# Altium schematic symbol library Schem_Lib_DaanHeetkamp.SchLib: 303 symbols (part 1 of 3)
Pins are listed as number, name and electrical type; pins without a type are passive.

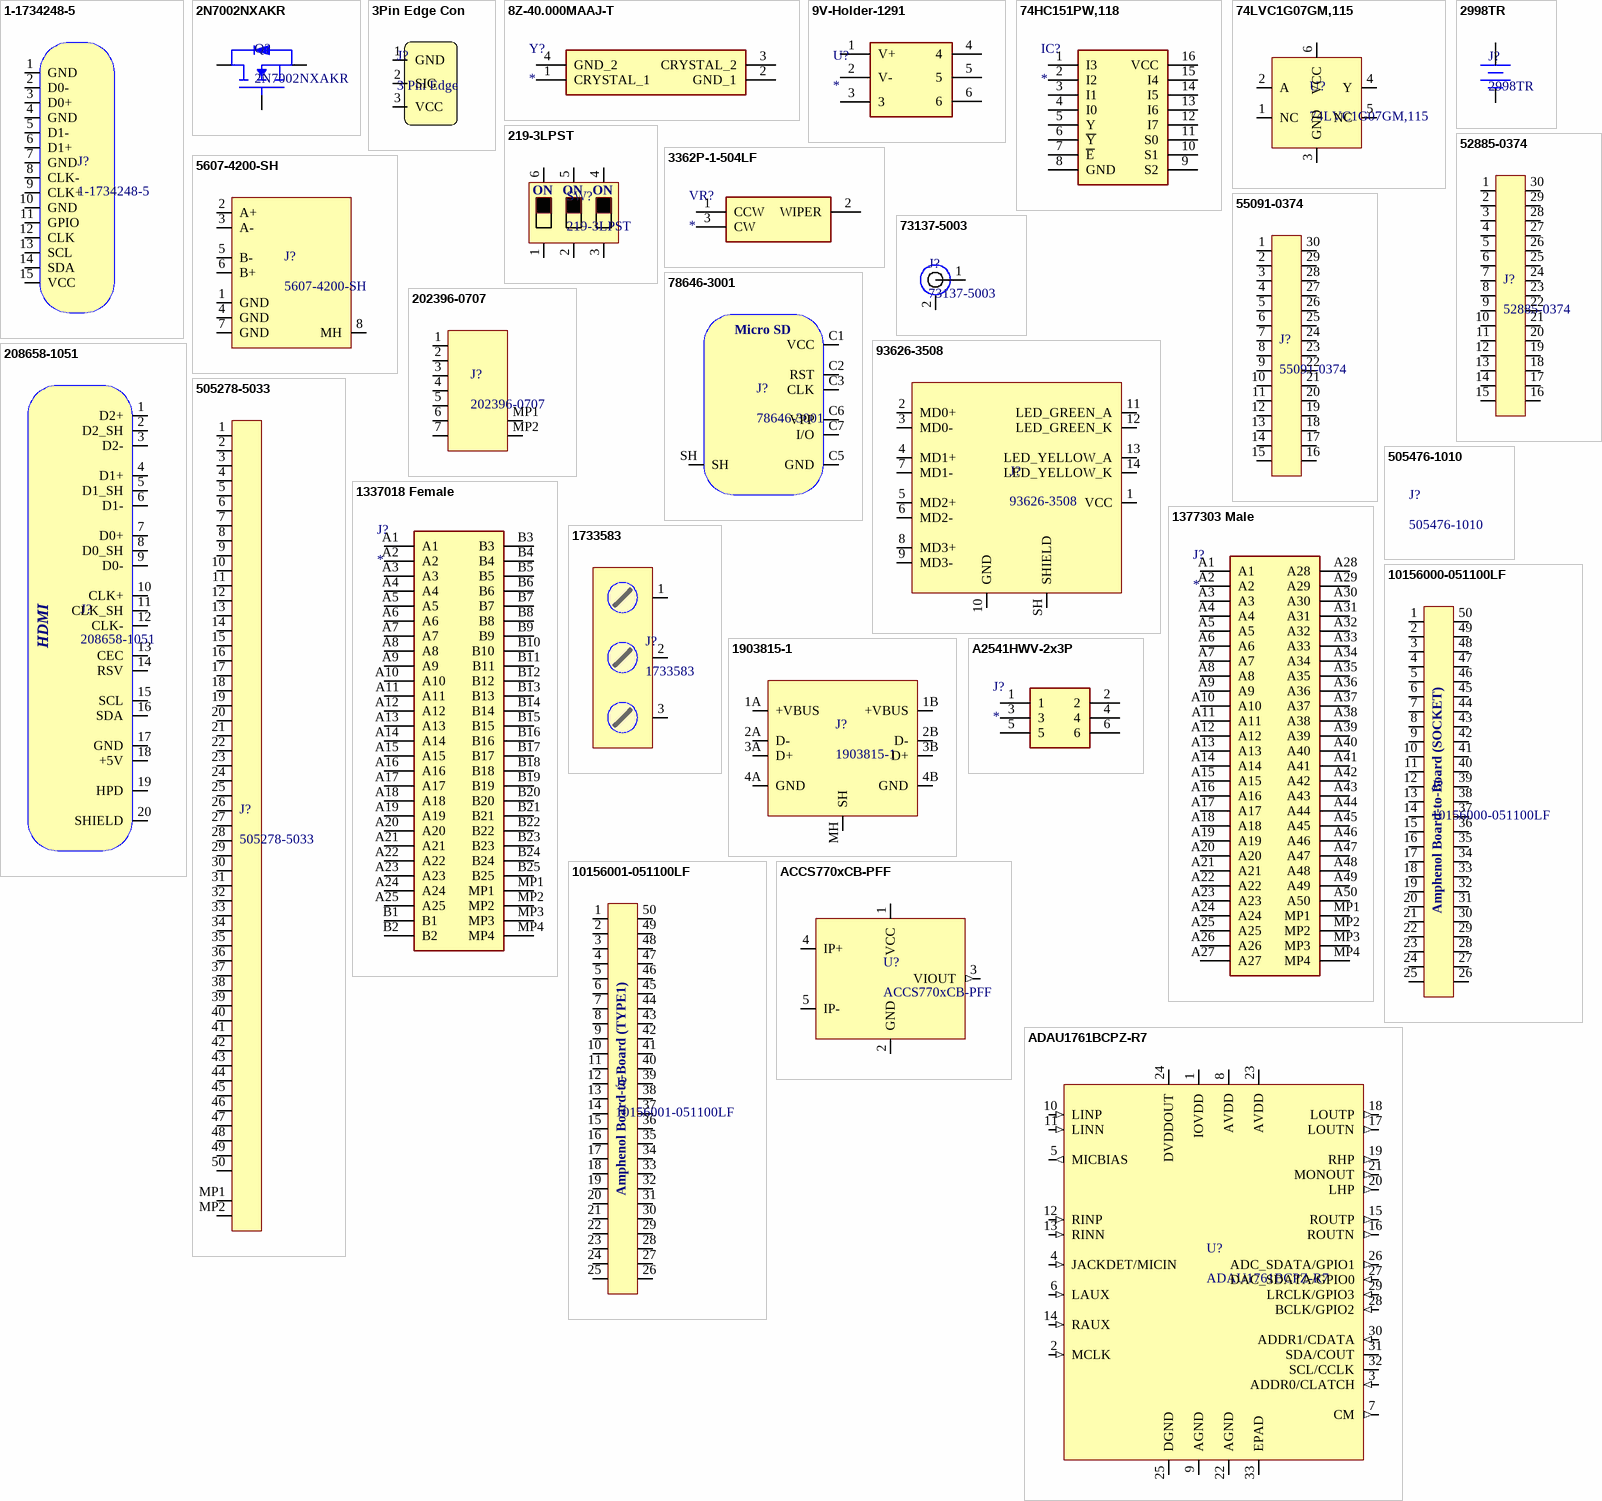
[diagram p0: symbols 1-1734248-5 to ADAU1761BCPZ-R7]

## 1-1734248-5
designator J?
FFC & FPC Connectors 15P 1.0 FPC, Zip V/T SMT; Manufacturer: TE Connectivity; Manufacturer Part Number: 1-1734248-5
footprint 1-1734248-5
pins: 1 GND, 2 D0-, 3 D0+, 4 GND, 5 D1-, 6 D1+, 7 GND, 8 CLK-, 9 CLK+, 10 GND, 11 GPIO, 12 CLK, 13 SCL, 14 SDA, 15 VCC

## 2N7002NXAKR
designator Q?
MOSFET N-Channel Vds=60V Id=300mA with ESD Protection; Manufacturer: Nexperia; Manufacturer Part Number: 2N7002NXAKR
footprint SSM3J338R,LF-SOT23-F
pins: D, G, S

## 3Pin Edge Con
designator J?, comment 3 Pin Edge
3 Pin Edge Connector
footprint 3PinEdge (3 Pin Edge Connector)
pins: 1 GND, 2 SIG, 3 VCC

## 8Z-40.000MAAJ-T
designator Y?
Crystal or Oscillator; Manufacturer_Name: TXC CORPORATION; Manufacturer_Part_Number: 8Z-40.000MAAJ-T; Datasheet Link: https://www.farnell.com/datasheets/1041872.pdf; Height: 0.55mm; Arrow Part Number: 8Z-40.000MAAJ-T; Arrow Price/Stock: https://www.arrow.com/en/products/8z-40.000maaj-t/txc-corporation
footprint 8Z40000MAAJT
pins: 1 CRYSTAL_1, 2 GND_1, 3 CRYSTAL_2, 4 GND_2

## 9V-Holder-1291
designator U?
Undefined or Miscellaneous; Manufacturer_Name: Keystone Electronics; Manufacturer_Part_Number: 1291; Datasheet Link: https://www.mouser.com/datasheet/2/215/291-741221.pdf; Height: 14.65mm; Mouser Part Number: 534-1291; Mouser Price/Stock: https://www.mouser.co.uk/ProductDetail/Keystone-Electronics/1291?qs=1rIBfDHV7idD%2F7OF5Ssx3Q%3D%3D
footprint 9V-Holder-129179
pins: 1 V+, 2 V-, 3, 4, 5, 6

## 74HC151PW,118
designator IC?
Integrated Circuit; Manufacturer_Name: Nexperia; Manufacturer_Part_Number: 74HC151PW,118; Datasheet Link: https://assets.nexperia.com/documents/data-sheet/74HC_HCT151.pdf; Height: 1.1mm; Mouser Part Number: 771-HC151PW118; Mouser Price/Stock: https://www.mouser.co.uk/ProductDetail/Nexperia/74HC151PW118?qs=P62ublwmbi%252BqenrdxHR1gw%3D%3D; Arrow Part Number: 74HC151PW,118; Arrow Price/Stock: https://www.arrow.com/en/products/74hc151pw118/nexperia?region=nac
footprint SOP65P640X110-16N
pins: 1 I3, 2 I2, 3 I1, 4 I0, 5 Y, 6 ~{Y}, 7 ~{E}, 8 GND, 9 S2, 10 S1, 11 S0, 12 I7, 13 I6, 14 I5, 15 I4, 16 VCC

## 74LVC1G07GM,115
designator U?
Open-Drain Buffer 3.3V/5V Non-Inverting XSON-6; Manufacturer: Nexperia; Manufacturer Part Number: 74LVC1G07GM,115
footprint XSON-6-SOT1202 (SON, 6-Leads, Body 0.98x1.00mm, Pitch 0.35mm, IPC Medium Density)
pins: 1 NC, 2 A, 3 GND, 4 Y, 5 NC, 6 VCC

## 219-3LPST
designator SW?
DIP Switches SPST 3x; Manufacturer: CTS; Manufacturer Part Number: 219-3LPST
footprint 219-3LPST
pins: 1, 2, 3, 4, 5, 6
text: ON

## 2998TR
designator J?
Coin Cell Battery Holder 6.8mm; Manufacturer: Keystone Electronics; Manufacturer Part Number: 2998TR
footprint 2998TR (6.8mm Coin Cell Holder SMD)
pins: A, K

## 3362P-1-504LF
designator VR?
Variable Resistor; Manufacturer_Name: Bourns; Manufacturer_Part_Number: 3362P-1-504LF; Datasheet Link: https://componentsearchengine.com/Datasheets/2/3362P-1-504LF.pdf; Height: 4.95mm; Mouser Part Number: 652-3362P-1-504LF; Mouser Price/Stock: https://www.mouser.co.uk/ProductDetail/Bourns/3362P-1-504LF?qs=PcXFNxoHkaI%252Brk7xgs916g%3D%3D; Arrow Part Number: 3362P-1-504LF; Arrow Price/Stock: https://www.arrow.com/en/products/3362p-1-504lf/bourns?region=nac
footprint 3362P1504LF
pins: 1 CCW, 2 WIPER, 3 CW

## 5607-4200-SH
designator J?
SATA Connector 7-Position 1.27mm Pitch Male Right Angle SMD; Manufacturer: 3M; Manufacturer Part Number: 5607-4200-SH
footprint 5607-4200-SH
pins: 1 GND, 2 A+, 3 A-, 4 GND, 5 B-, 6 B+, 7 GND, 8 MH

## 52885-0374
designator J?
SlimStack Board-to-Board Connector, 0.635mm Pitch, 0.635 Series, Receptacle, 6.00 to 10.00mm Mated Height, 6.40mm Mated Width, 30 Circuits; Manufacturer: Molex; Manufacturer Part Number: 52885-0374
footprint 52885-0374
pins: 1, 2, 3, 4, 5, 6, 7, 8, 9, 10, 11, 12, 13, 14, 15, 16, 17, 18, 19, 20, 21, 22, 23, 24, 25, 26, 27, 28, 29, 30

## 55091-0374
designator J?
SlimStack Board-to-Board Connector, 0.635mm Pitch, 0.635 Series, Plug, 6.00 or 12.00mm Mated Height, 6.40mm Mated Width, 30 Circuits; Manufacturer: Molex; Manufacturer Part Number: 55091-0374
footprint 55091-0374
pins: 1, 2, 3, 4, 5, 6, 7, 8, 9, 10, 11, 12, 13, 14, 15, 16, 17, 18, 19, 20, 21, 22, 23, 24, 25, 26, 27, 28, 29, 30

## 73137-5003
designator J?
BNC 50 Ohm, Right-Angle PCB Bulkhead Jack Receptacle, Panel Isolated, Black PBT Housing, Housing Height 13.20mm; Manufacturer: Molex; Manufacturer Part Number: 73137-5003
footprint 73137-5003
pins: 1, 2

## 78646-3001
designator J?
micro-SIM Card Socket without Detect Switch, 1.45mm Height, Push-Pull Eject, Surface Mount, 6 Circuits, Low-Halogen, Lead-Free; Manufacturer: Molex; Manufacturer Part Number: 78646-3001
footprint 78646-3001
pins: C1 VCC, C2 RST, C3 CLK, C5 GND, C6 VPP, C7 I/O, SH
text: Micro SD

## 93626-3508
designator J?
MXMag Gigabit Ethernet 8 Core Non-PoE Single-Port RJ45 Connector, 21.40mm Depth, 3.30mm Phy Pin Length, Right-Angle, Standard Profile, with Shield Tabs, with Green/Yellow-Green/Yellow LEDs, Standard Temperature, with 2kV Shield Connection; Manufacturer: Molex; Manufacturer Part Number: 93626-3508
footprint 93626-3508
pins: 1 VCC, 2 MD0+, 3 MD0-, 4 MD1+, 5 MD2+, 6 MD2-, 7 MD1-, 8 MD3+, 9 MD3-, 10 GND, 11 LED_GREEN_A, 12 LED_GREEN_K, 13 LED_YELLOW_A, 14 LED_YELLOW_K, SH SHIELD

## 202396-0707
designator J?
1.00mm Pitch, Pico-Clasp PCB Header, Single Row, Right-Angle, Surface Mount, 0.10µm Gold Plated, Inner Positive Lock, 7 Circuits, Natural; Manufacturer: Molex; Manufacturer Part Number: 202396-0707
footprint 202396-0707
pins: 1, 2, 3, 4, 5, 6, 7, MP1, MP2

## 208658-1051
designator J?
HDMI v2.1 Receptacle, Right-Angle, Gold Flash Plating, without Mylar, without Flange, Tape and Reel, 19 Circuits; Manufacturer: Molex; Manufacturer Part Number: 208658-1051
footprint 208658-1051
pins: 1 D2+, 2 D2_SH, 3 D2-, 4 D1+, 5 D1_SH, 6 D1-, 7 D0+, 8 D0_SH, 9 D0-, 10 CLK+, 11 CLK_SH, 12 CLK-, 13 CEC, 14 RSV, 15 SCL, 16 SDA, 17 GND, 18 +5V, 19 HPD, 20 SHIELD
text: HDMI

## 505278-5033
designator J?
FFC Connector 50 Position 0.5mm Pitch Bottom Contact ZIF; Manufacturer: Molex; Manufacturer Part Number: 505278-5033
footprint 505278-5033
pins: 1, 2, 3, 4, 5, 6, 7, 8, 9, 10, 11, 12, 13, 14, 15, 16, 17, 18, 19, 20, 21, 22, 23, 24, 25, 26, 27, 28, 29, 30, 31, 32, 33, 34, 35, 36, 37, 38, 39, 40, 41, 42, 43, 44, 45, 46, 47, 48, 49, 50, MP1, MP2

## 505476-1010
designator J?
SlimStack Board-to-Board Plug, 0.40mm Pitch, Battery Series, 0.60mm Mated Height, 2.00mm Mated Width, 10 Circuits, 10.0A; Manufacturer: Molex; Manufacturer Part Number: 505476-1010
footprint 505476-1010

## 1337018 Female
designator J?
FR 1,27/ 50-FH - SMD female connectors. / SMD; Manufacturer_Name: Phoenix Contact; Manufacturer_Part_Number: 1337018; Datasheet Link: http://www.phoenixcontact.com/gb/produkte/1337018; Height: 3.78mm
footprint 1337018
pins: A1, A2, A3, A4, A5, A6, A7, A8, A9, A10, A11, A12, A13, A14, A15, A16, A17, A18, A19, A20, A21, A22, A23, A24, A25, B1, B2, B3, B4, B5, B6, B7, B8, B9, B10, B11, B12, B13, B14, B15, B16, B17, B18, B19, B20, B21, B22, B23, B24, B25, MP1, MP2, MP3, MP4

## 1377303 Male
designator J?
FR 1,27/ 50-MH - SMD male connectors; Manufacturer_Name: Phoenix Contact; Manufacturer_Part_Number: 1377303; Datasheet Link: http://www.phoenixcontact.com/gb/produkte/1377303; Height: 4.25mm
footprint 1377303
pins: A1, A2, A3, A4, A5, A6, A7, A8, A9, A10, A11, A12, A13, A14, A15, A16, A17, A18, A19, A20, A21, A22, A23, A24, A25, A26, A27, A28, A29, A30, A31, A32, A33, A34, A35, A36, A37, A38, A39, A40, A41, A42, A43, A44, A45, A46, A47, A48, A49, A50, MP1, MP2, MP3, MP4

## 1733583
designator J?
Screw Terminal 3 Position 5.08mm Pitch Phoenix; Manufacturer: Phoenix Contact; Manufacturer Part Number: 1733583
footprint 1733583
pins: 1, 2, 3

## 1903815-1
designator J?
USB Connectors, A, 2.0, Standard Profile, Female Receptacle, 2 Port, Top, Right Angle, IP20, Offset, Industrial USB IP20; Manufacturer: TE Connectivity; Manufacturer Part Number: 1903815-1
footprint 1903815-1
pins: 1A +VBUS, 1B +VBUS, 2A D-, 2B D-, 3A D+, 3B D+, 4A GND, 4B GND, MH SH

## 10156000-051100LF
designator J?
Board-to-Board Connector 0.5mm Pitch 50 Position 2 Row; Manufacturer: Amphenol FCI; Manufacturer Part Number: 10156000-051100LF
footprint 10156000-051100LF
pins: 1, 2, 3, 4, 5, 6, 7, 8, 9, 10, 11, 12, 13, 14, 15, 16, 17, 18, 19, 20, 21, 22, 23, 24, 25, 26, 27, 28, 29, 30, 31, 32, 33, 34, 35, 36, 37, 38, 39, 40, 41, 42, 43, 44, 45, 46, 47, 48, 49, 50
text: Amphenol Board-to-Board (SOCKET)

## 10156001-051100LF
designator J?
Board-to-Board Connector 0.5mm Pitch 50 Position 2 Row; Manufacturer: Amphenol FCI; Manufacturer Part Number: 10156001-051100LF
footprint 10156001-051100LF
pins: 1, 2, 3, 4, 5, 6, 7, 8, 9, 10, 11, 12, 13, 14, 15, 16, 17, 18, 19, 20, 21, 22, 23, 24, 25, 26, 27, 28, 29, 30, 31, 32, 33, 34, 35, 36, 37, 38, 39, 40, 41, 42, 43, 44, 45, 46, 47, 48, 49, 50
text: Amphenol Board-to-Board (TYPE1)

## A2541HWV-2x3P
designator J?
Connector; Manufacturer_Name: Changjiang Connectors; Manufacturer_Part_Number: A2541HWV-2x3P; Datasheet Link: https://www.cjt.com/UP/A2541HWV-2xXP_dwg.pdf; Height: 8.75mm
footprint RHDR6W64P254_2X3_812X500X875P
pins: 1, 2, 3, 4, 5, 6

## ACCS770xCB-PFF
designator U?
Thermally Enhanced, Fully Integrated, Hall-Effect-Based / High-Precision Linear Current Sensor IC with 100 µΩ Current Conductor PFF Leadform; Manufacturer: Allegro MicroSystems; Manufacturer Part Number: ACS770*CB-*-PFF
footprint ACS770-PFF
pins: 1 VCC (power), 2 GND (power), 3 VIOUT (out), 4 IP+ (power), 5 IP- (power)

## ADAU1761BCPZ-R7
designator U?
Manufacturer: Analog Devices; Manufacturer Part Number: ADAU1761BCPZ-R7
footprint LFCSP-VQ
pins: 1 IOVDD (power), 2 MCLK (in), 3 ADDR0/CLATCH (in), 4 JACKDET/MICIN (in), 5 MICBIAS (out), 6 LAUX (in), 7 CM (out), 8 AVDD (power), 9 AGND (power), 10 LINP (in), 11 LINN (in), 12 RINP (in), 13 RINN (in), 14 RAUX (in), 15 ROUTP (out), 16 ROUTN (out), 17 LOUTN (out), 18 LOUTP (out), 19 RHP (out), 20 LHP (out), 21 MONOUT (out), 22 AGND (power), 23 AVDD (power), 24 DVDDOUT (power), 25 DGND (power), 26 ADC_SDATA/GPIO1 (out), 27 DAC_SDATA/GPIO0 (in), 28 BCLK/GPIO2 (in), 29 LRCLK/GPIO3 (in), 30 ADDR1/CDATA (in), 31 SDA/COUT (oc), 32 SCL/CCLK (oc), 33 EPAD (power)

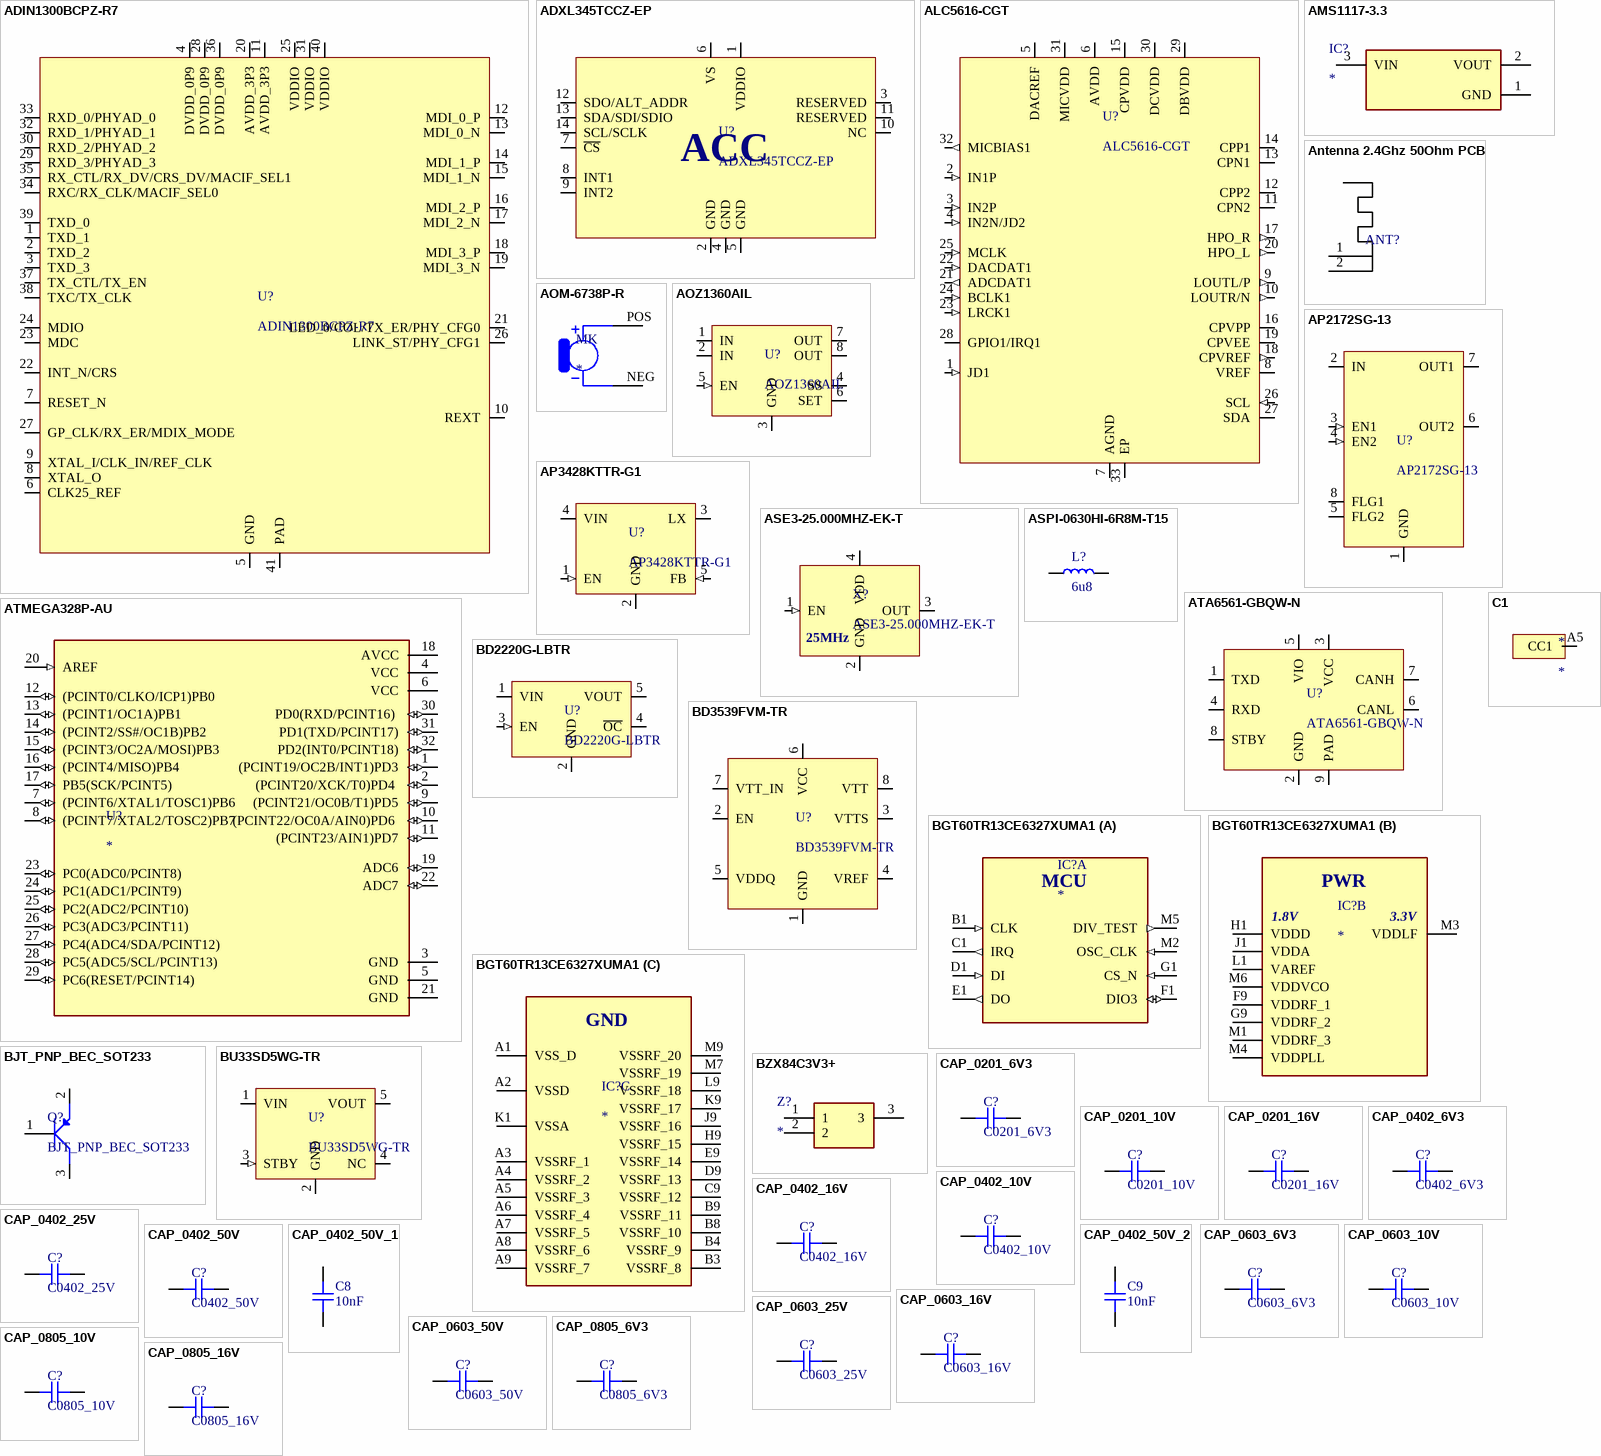
[diagram p1: symbols ADIN1300BCPZ-R7 to CAP_0805_16V]

## ADIN1300BCPZ-R7
designator U?
Gigabit Ethernet PHY MII/RGMII/RMII; Manufacturer: Analog Devices; Manufacturer Part Number: ADIN1300BCPZ-R7
footprint LFCSP-CP-40-26 (QFN, 40-Leads, Body 6,00x6,00mm, Pitch 0,50mm, Thermal Pad 2,77x2,77mm, IPC Medium Density)
pins: 1 TXD_1, 2 TXD_2, 3 TXD_3, 4 DVDD_0P9, 5 GND, 6 CLK25_REF, 7 RESET_N, 8 XTAL_O, 9 XTAL_I/CLK_IN/REF_CLK, 10 REXT, 11 AVDD_3P3, 12 MDI_0_P, 13 MDI_0_N, 14 MDI_1_P, 15 MDI_1_N, 16 MDI_2_P, 17 MDI_2_N, 18 MDI_3_P, 19 MDI_3_N, 20 AVDD_3P3, 21 LED_0/COL/TX_ER/PHY_CFG0, 22 INT_N/CRS, 23 MDC, 24 MDIO, 25 VDDIO, 26 LINK_ST/PHY_CFG1, 27 GP_CLK/RX_ER/MDIX_MODE, 28 DVDD_0P9, 29 RXD_3/PHYAD_3, 30 RXD_2/PHYAD_2, 31 VDDIO, 32 RXD_1/PHYAD_1, 33 RXD_0/PHYAD_0, 34 RXC/RX_CLK/MACIF_SEL0, 35 RX_CTL/RX_DV/CRS_DV/MACIF_SEL1, 36 DVDD_0P9, 37 TX_CTL/TX_EN, 38 TXC/TX_CLK, 39 TXD_0, 40 VDDIO, 41 PAD

## ADXL345TCCZ-EP
designator U?
3-Axis, ±2 g/±4 g/±8 g/±16 g Digital Accelerometer Extended Performance SPI/I2C; Manufacturer: Analog Devices; Manufacturer Part Number: ADXL345TCCZ-EP
footprint LGA_CC-14-1_ADI
pins: 1 VDDIO, 2 GND, 3 RESERVED, 4 GND, 5 GND, 6 VS, 7 ~{CS}, 8 INT1, 9 INT2, 10 NC, 11 RESERVED, 12 SDO/ALT_ADDR, 13 SDA/SDI/SDIO, 14 SCL/SCLK
text: ACC

## ALC5616-CGT
designator U?
Ultra-Low Power Audio CODEC; Manufacturer: Realtek; Manufacturer Part Number: ALC5616-CGT
footprint QFN-32-4x4 (QFN, 32-Leads, Body 4.00x4.00mm, Pitch 0.40mm, Thermal Pad 2.70x2.70mm, IPC Medium Density)
pins: 1 JD1 (in), 2 IN1P (in), 3 IN2P (in), 4 IN2N/JD2 (in), 5 DACREF (power), 6 AVDD (power), 7 AGND (power), 8 VREF (power), 9 LOUTL/P (out), 10 LOUTR/N (out), 11 CPN2 (power), 12 CPP2 (power), 13 CPN1 (power), 14 CPP1 (power), 15 CPVDD (power), 16 CPVPP, 17 HPO_R (out), 18 CPVREF (out), 19 CPVEE, 20 HPO_L (out), 21 ADCDAT1 (out), 22 DACDAT1 (in), 23 LRCK1 (in), 24 BCLK1 (in), 25 MCLK (in), 26 SCL (in), 27 SDA (io), 28 GPIO1/IRQ1 (io), 29 DBVDD (power), 30 DCVDD (power), 31 MICVDD (power), 32 MICBIAS1 (out), 33 EP (power)

## AMS1117-3.3
designator IC?
Integrated Circuit; Manufacturer_Name: Advanced Monolithic Systems; Manufacturer_Part_Number: AMS1117-3.3; Datasheet Link: http://www.advanced-monolithic.com/pdf/ds1117.pdf; Height: 1.8mm
footprint SOT229P700X180-4N
pins: 1 GND, 2 VOUT, 3 VIN, 4 VOUT_2

## Antenna 2.4Ghz 50Ohm PCB
designator ANT?
ESP32 C3
footprint PCB_Antenna_2.4GHz_50Ohm
pins: 1 RF, 2 GND

## AOM-6738P-R
designator MK
30Hz ~ 15kHz Analog Microphone Electret Condenser 1.5V ~ 10V Omnidirectional _-38dB Â±3dB_ PC Pins; MP: AOM-6738P-R; MF: PUI; SnapEDA_Link: https://www.snapeda.com/parts/AOM-6738P-R/PUI%20Audio%2C%20Inc./view-part/246102/?ref=snap; Package: PUI; Value: *; Availability: Unavailable; Price: None
footprint MIC_AOM-6738P-R
pins: NEG, POS

## AOZ1360AIL
designator U?
28V Programmable Current-Limited Load Switch SO-8; Manufacturer: ALPHA & OMEGA SEMICON; Manufacturer Part Number: AOZ1360AIL
footprint SO-8L (SOIC, 8-Leads, Body 4.90x3.90mm, Pitch 1.27mm, IPC Medium Density)
pins: 1 IN (power), 2 IN (power), 3 GND (power), 4 SS, 5 EN (in), 6 SET (power), 7 OUT (power), 8 OUT (power)

## AP2172SG-13
designator U?
1A DUAL CHANNEL CURRENT-LIMITED POWER SWITCH Enable Active High; Manufacturer: Diodes Incorporated; Manufacturer Part Number: AP2172SG-13
footprint SO-8L (SOIC, 8-Leads, Body 4.90x3.90mm, Pitch 1.27mm, IPC Medium Density)
pins: 1 GND (power), 2 IN (power), 3 EN1 (in), 4 EN2 (in), 5 FLG2 (oc), 6 OUT2 (power), 7 OUT1 (power), 8 FLG1 (oc)

## AP3428KTTR-G1
designator U?
1.5MHZ, 1A STEP-DOWN DC-DC BUCK CONVERTER; Manufacturer: Diodes Incorporated; Manufacturer Part Number: AP3428KTTR-G1
footprint TSOT25 (SOT23, 5-Leads, Body 2.90x2.80mm, Pitch 0.95mm, IPC Medium Density)
pins: 1 EN (in), 2 GND (power), 3 LX (power), 4 VIN (power), 5 FB (in)

## ASE3-25.000MHZ-EK-T
designator X?
Standard Clock Oscillators 25 MHZ 1.8V 15PF 4-PIN 3.2mm x 2.5mm; Manufacturer: ABRACON; Manufacturer Part Number: ASE3-25.000MHZ-EK-T
footprint XTAL_3225
pins: 1 EN (in), 2 GND (power), 3 OUT, 4 VDD (power)
text: 25MHz

## ASPI-0630HI-6R8M-T15
designator L?, comment 6u8
Inductor SMD 6.8uH 20% 8A Shielded; Manufacturer: ABRACON; Manufacturer Part Number: ASPI-0630HI-6R8M-T15
footprint ASPI-0630HI-6R8M-T15
pins: 1, 2

## ATA6561-GBQW-N
designator U?
CAN Interface IC High-Speed FD VDFN-8; Manufacturer: Microchip; Manufacturer Part Number: ATA6561-GBQW-N
footprint VDFN-8
pins: 1 TXD, 2 GND, 3 VCC, 4 RXD, 5 VIO, 6 CANL, 7 CANH, 8 STBY, 9 PAD

## ATMEGA328P-AU
designator U?
ATmega Series 20 MHz 32 KB Flash 2 KB SRAM 8-Bit Microcontroller - TQFP-32; MP: ATMEGA328P-AU; Value: *; Availability: Unavailable; Price: None; Package: None
footprint ATMEGA328P-AU
pins: 1 (PCINT19/OC2B/INT1)PD3 (io), 2 (PCINT20/XCK/T0)PD4  (io), 3 GND (power), 4 VCC (power), 5 GND (power), 6 VCC (power), 7 (PCINT6/XTAL1/TOSC1)PB6  (io), 8 (PCINT7/XTAL2/TOSC2)PB7 (io), 9 (PCINT21/OC0B/T1)PD5 (io), 10 (PCINT22/OC0A/AIN0)PD6  (io), 11 (PCINT23/AIN1)PD7 (io), 12 (PCINT0/CLKO/ICP1)PB0 (io), 13 (PCINT1/OC1A)PB1 (io), 14 (PCINT2/SS#/OC1B)PB2 (io), 15 (PCINT3/OC2A/MOSI)PB3 (io), 16 (PCINT4/MISO)PB4 (io), 17 PB5(SCK/PCINT5) (io), 18 AVCC (power), 19 ADC6 (io), 20 AREF (in), 21 GND (power), 22 ADC7 (io), 23 PC0(ADC0/PCINT8) (io), 24 PC1(ADC1/PCINT9) (io), 25 PC2(ADC2/PCINT10) (io), 26 PC3(ADC3/PCINT11) (io), 27 PC4(ADC4/SDA/PCINT12) (io), 28 PC5(ADC5/SCL/PCINT13) (io), 29 PC6(RESET/PCINT14) (io), 30 PD0(RXD/PCINT16)  (io), 31 PD1(TXD/PCINT17) (io), 32 PD2(INT0/PCINT18) (io)

## BD2220G-LBTR
designator U?
High-Side USB Current Limited Power Distribution Switch 1A SMD; Manufacturer: ROHM Semiconductor; Manufacturer Part Number: BD2220G-LBTR
footprint SSOP5
pins: 1 VIN (power), 2 GND (power), 3 EN (in), 4 ~{OC}, 5 VOUT

## BD3539FVM-TR
designator U?
1.0V to 5.5V, 1A 1Ch Termination Regulator for DDR-SDRAMs; Manufacturer: ROHM Semiconductor; Manufacturer Part Number: BD3539FVM-TR
footprint MSOP8 (TSOP, 8-Leads, Body 2.90x2.80mm, Pitch 0.65mm, IPC Medium Density)
pins: 1 GND, 2 EN, 3 VTTS, 4 VREF, 5 VDDQ, 6 VCC, 7 VTT_IN, 8 VTT

## BGT60TR13CE6327XUMA1
designator IC?
Integrated Circuit; Manufacturer_Name: Infineon; Manufacturer_Part_Number: BGT60TR13CE6327XUMA1; Datasheet Link: https://www.infineon.com/dgdl/Infineon-BGT60TR13C-DataSheet-v02_49-EN.pdf?fileId=8ac78c8c7d718a49017d94bac88e5d43; Height: 0.9mm; Mouser Part Number: 726-BGT60TR13CE6327X; Mouser Price/Stock: https://www.mouser.co.uk/ProductDetail/Infineon-Technologies/BGT60TR13CE6327XUMA1?qs=sPbYRqrBIVnK9rZEOIh6SA%3D%3D; Arrow Part Number: BGT60TR13CE6327XUMA1; Arrow Price/Stock: https://www.arrow.com/en/products/bgt60tr13ce6327xuma1/infineon-technologies-ag?region=nac; LCSC PART #: C3606641
footprint BGT60TR13CE6327XUMA1
part A pins: B1 CLK (in), C1 IRQ (out), D1 DI (in), E1 DO (out), F1 DIO3 (io), G1 CS_N (in), M2 OSC_CLK (in), M5 DIV_TEST (out)
part B pins: F9 VDDRF_1 (power), G9 VDDRF_2 (power), H1 VDDD (power), J1 VDDA (power), L1 VAREF (power) "1.8V Vout", M1 VDDRF_3 (power), M3 VDDLF (power), M4 VDDPLL (power), M6 VDDVCO (power)
part C pins: A1 VSS_D (power), A2 VSSD (power), A3 VSSRF_1 (power), A4 VSSRF_2 (power), A5 VSSRF_3 (power), A6 VSSRF_4 (power), A7 VSSRF_5 (power), A8 VSSRF_6 (power), A9 VSSRF_7 (power), B3 VSSRF_8 (power), B4 VSSRF_9 (power), B8 VSSRF_10 (power), B9 VSSRF_11 (power), C9 VSSRF_12 (power), D9 VSSRF_13 (power), E9 VSSRF_14 (power), H9 VSSRF_15 (power), J9 VSSRF_16 (power), K1 VSSA (power), K9 VSSRF_17 (power), L9 VSSRF_18 (power), M7 VSSRF_19 (power), M9 VSSRF_20 (power)
part A text: MCU
part B text: PWR; 1.8V; 3.3V
part C text: GND

## BJT_PNP_BEC_SOT233
designator Q?
Transistor BJT PNP SOT-23-3 Package Base=1 Emitter=2 Collector=3
footprint SOT-23-3
pins: 1 B, 2 E, 3 C

## BU33SD5WG-TR
designator U?
LDO Voltage Regulator 3.3V 500mA; Manufacturer: ROHM Semiconductor; Manufacturer Part Number: BU33SD5WG-TR
footprint SOT-23-5 (SOT23, 5-Leads, Body 2,90x2,80mm, Pitch 0,95mm, IPC Medium Density)
pins: 1 VIN (power), 2 GND (power), 3 STBY (in), 4 NC, 5 VOUT (power)

## BZX84C3V3+
designator Z?
Zener Diode; Manufacturer_Name: Multicomp Pro; Manufacturer_Part_Number: BZX84C3V3+; Datasheet Link: http://www.farnell.com/datasheets/2864041.pdf?_ga=2.65399785.614620193.1582490097-507155298.1582490097; Height: 1.22mm; LCSC PART #: C2926225
footprint SOT96P237X122-3N
pins: 1, 2, 3

## C1
designator *
pins: A5 CC1

## CAP_0201_6V3
designator C?, comment C0201_6V3
Capacitor SMD 0201 6V3
footprint CAP_0201
pins: 1, 2

## CAP_0201_10V
designator C?, comment C0201_10V
Capacitor SMD 0201 10V
footprint CAP_0201
pins: 1, 2

## CAP_0201_16V
designator C?, comment C0201_16V
Capacitor SMD 0201 16V
footprint CAP_0201
pins: 1, 2

## CAP_0402_6V3
designator C?, comment C0402_6V3
Capacitor SMD 0402 6V3
footprint CAP_0402
pins: 1, 2

## CAP_0402_10V
designator C?, comment C0402_10V
Capacitor SMD 0402 10V
footprint CAP_0402
pins: 1, 2

## CAP_0402_16V
designator C?, comment C0402_16V
Capacitor SMD 0402 16V
footprint CAP_0402
pins: 1, 2

## CAP_0402_25V
designator C?, comment C0402_25V
Capacitor SMD 0402 25V
footprint CAP_0402
pins: 1, 2

## CAP_0402_50V
designator C?, comment C0402_50V
Capacitor SMD 0402 50V
footprint CAP_0402
pins: 1, 2

## CAP_0402_50V_1
designator C8, comment 10nF
Capacitor SMD 0402 50V
footprint CAP_0402
pins: 1, 2

## CAP_0402_50V_2
designator C9, comment 10nF
Capacitor SMD 0402 50V
footprint CAP_0402
pins: 1, 2

## CAP_0603_6V3
designator C?, comment C0603_6V3
Capacitor SMD 0603 6V3
footprint CAP_0603
pins: 1, 2

## CAP_0603_10V
designator C?, comment C0603_10V
Capacitor SMD 0603 10V
footprint CAP_0603
pins: 1, 2

## CAP_0603_16V
designator C?, comment C0603_16V
Capacitor SMD 0603 16V
footprint CAP_0603
pins: 1, 2

## CAP_0603_25V
designator C?, comment C0603_25V
Capacitor SMD 0603 25V
footprint CAP_0603
pins: 1, 2

## CAP_0603_50V
designator C?, comment C0603_50V
Capacitor SMD 0603 50V
footprint CAP_0603
pins: 1, 2

## CAP_0805_6V3
designator C?, comment C0805_6V3
Capacitor SMD 0805 6V3
footprint CAP_0805
pins: 1, 2

## CAP_0805_10V
designator C?, comment C0805_10V
Capacitor SMD 0805 10V
footprint CAP_0805
pins: 1, 2

## CAP_0805_16V
designator C?, comment C0805_16V
Capacitor SMD 0805 16V
footprint CAP_0805
pins: 1, 2

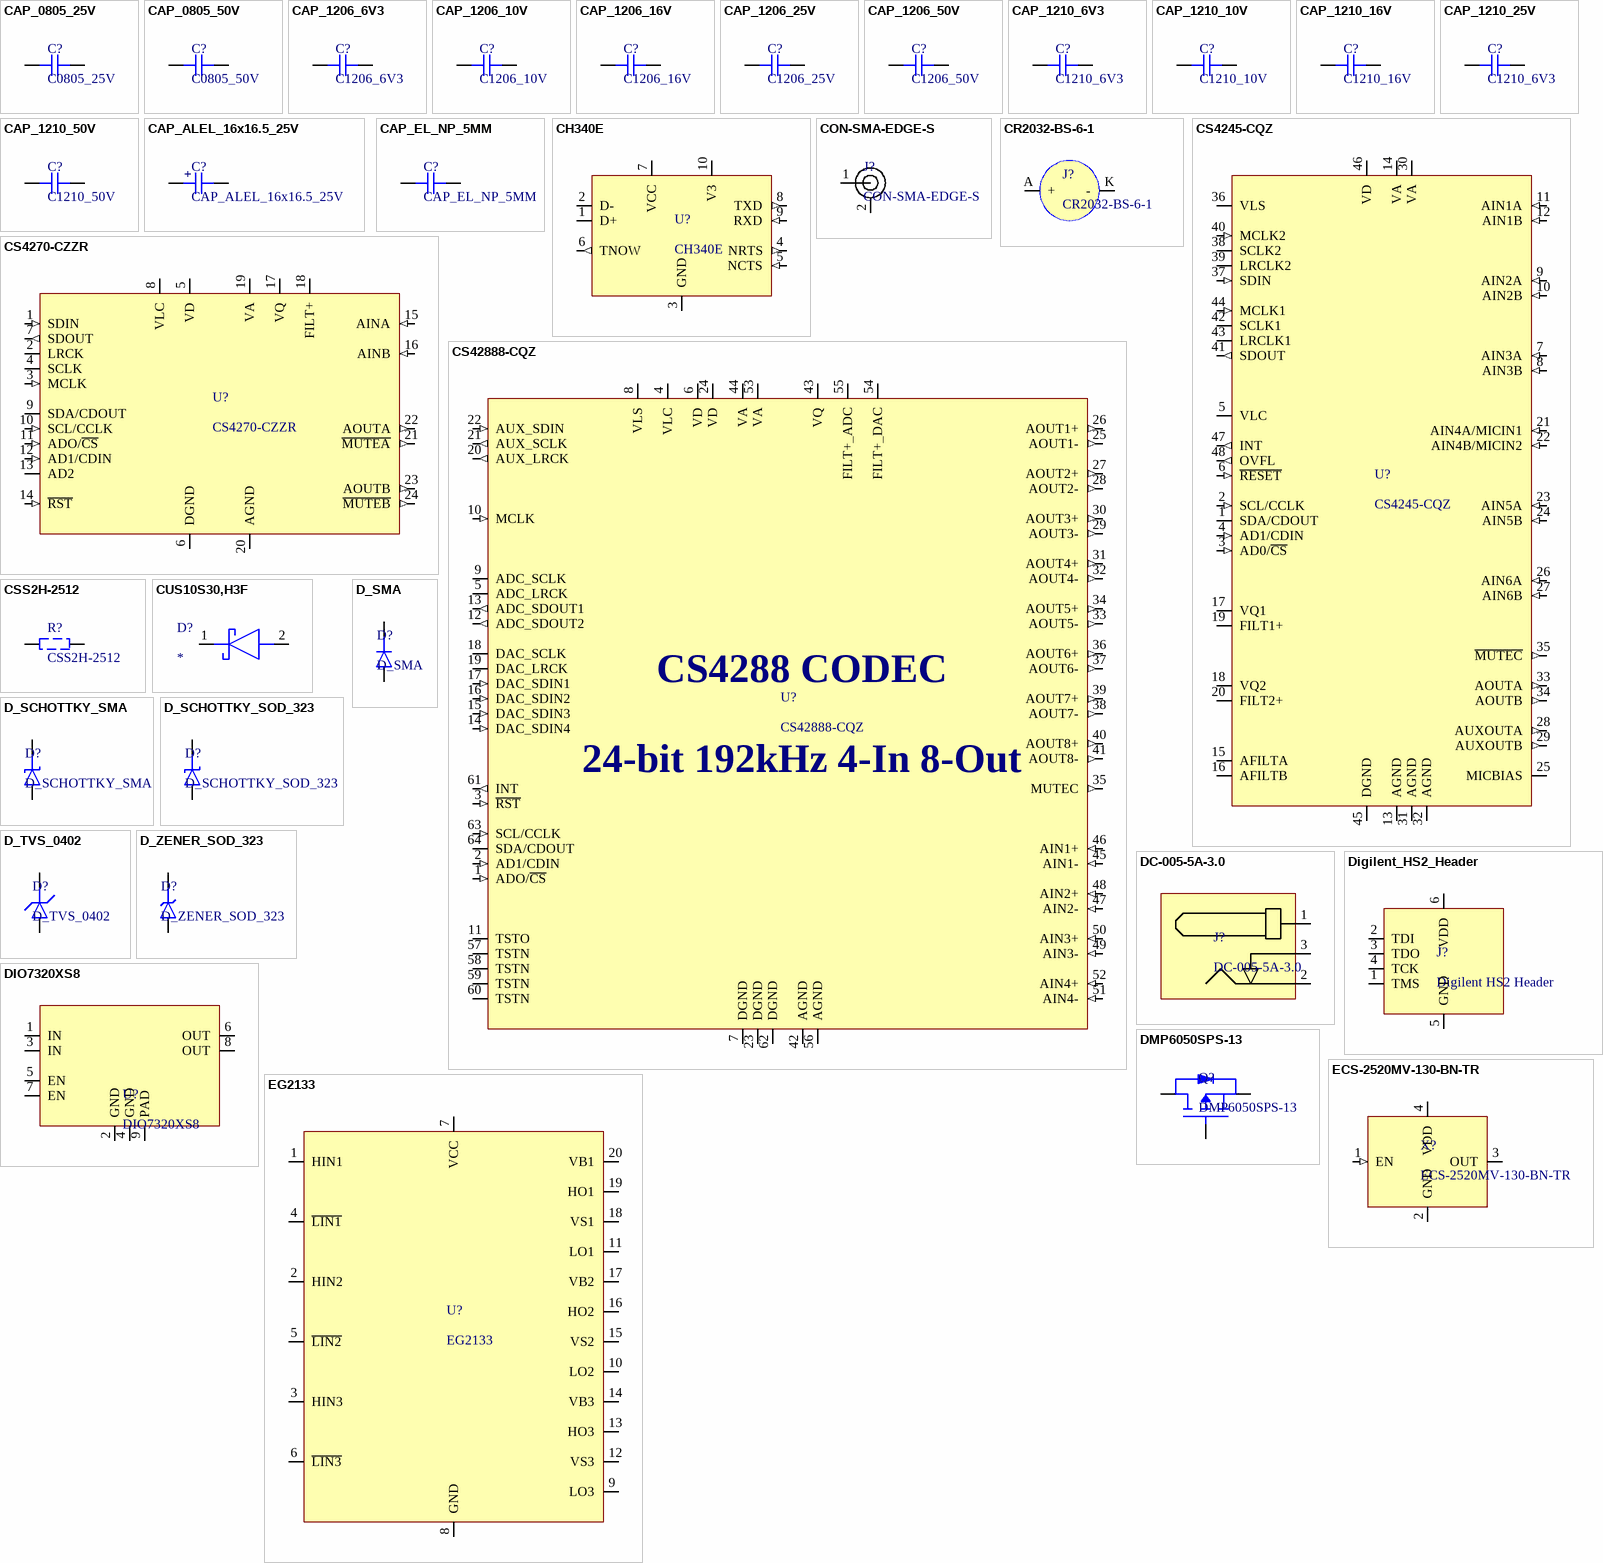
[diagram p2: symbols CAP_0805_25V to EG2133]

## CAP_0805_25V
designator C?, comment C0805_25V
Capacitor SMD 0805 25V
footprint CAP_0805
pins: 1, 2

## CAP_0805_50V
designator C?, comment C0805_50V
Capacitor SMD 0805 50V
footprint CAP_0805
pins: 1, 2

## CAP_1206_6V3
designator C?, comment C1206_6V3
Capacitor SMD 1206 6V3
footprint CAP_1206
pins: 1, 2

## CAP_1206_10V
designator C?, comment C1206_10V
Capacitor SMD 1206 10V
footprint CAP_1206
pins: 1, 2

## CAP_1206_16V
designator C?, comment C1206_16V
Capacitor SMD 1206 16V
footprint CAP_1206
pins: 1, 2

## CAP_1206_25V
designator C?, comment C1206_25V
Capacitor SMD 1206 25V
footprint CAP_1206
pins: 1, 2

## CAP_1206_50V
designator C?, comment C1206_50V
Capacitor SMD 1206 50V
footprint CAP_1206
pins: 1, 2

## CAP_1210_6V3
designator C?, comment C1210_6V3
Capacitor SMD 1210 6V3
footprint CAP_1210
pins: 1, 2

## CAP_1210_10V
designator C?, comment C1210_10V
Capacitor SMD 1210 10V
footprint CAP_1210
pins: 1, 2

## CAP_1210_16V
designator C?, comment C1210_16V
Capacitor SMD 1210 16V
footprint CAP_1210
pins: 1, 2

## CAP_1210_25V
designator C?, comment C1210_6V3
Capacitor SMD 1210 25V
footprint CAP_1210
pins: 1, 2

## CAP_1210_50V
designator C?, comment C1210_50V
Capacitor SMD 1210 50V
footprint CAP_1210
pins: 1, 2

## CAP_ALEL_16x16.5_25V
designator C?
Capacitor SMD Aluminium Electrolytic 16x16.5mm 25V; Manufacturer: *; Manufacturer Part Number: *
footprint CAP_ALEL_16x16.5 (Aluminum Electrolytic Capacitor, Body 17.00x17.00x17.00mm, IPC Low Density)
pins: 1, 2
text: +

## CAP_EL_NP_5MM
designator C?
Capacitor SMD Electrolytic Non-Polarised 5mm Diameter; Manufacturer: Nichicon; Manufacturer Part Number: *
footprint CAP-EL-NP-5MM
pins: 1, 2

## CH340E
designator U?
USB-to-UART Transceiver MSOP-10; Manufacturer Part Number: CH340E
footprint MSOP-10
pins: 1 D+ (io), 2 D- (io), 3 GND (power), 4 NRTS (out), 5 NCTS (in), 6 TNOW (out), 7 VCC (power), 8 TXD (out), 9 RXD (in), 10 V3 (power)

## CON-SMA-EDGE-S
designator J?
RF Connector SMA Female 50 Ohms 18 GHz PCB Edge Mount; Manufacturer: RF Solutions; Manufacturer Part Number: CON-SMA-EDGE-S
footprint CON-SMA-EDGE-S
pins: 1, 2

## CR2032-BS-6-1
designator J?
CR2032 Coin Cell Battery Holder; Manufacturer: Q&J; Manufacturer Part Number: CR2032-BS-6-1
footprint CR2032
pins: A +, K -

## CS4245-CQZ
designator U?
104 dB, 24-Bit, 192 kHz Stereo Audio Codec; Manufacturer: Cirrus Logic; Manufacturer Part Number: CS4245-CQZ
footprint LQFP-48
pins: 1 SDA/CDOUT (io), 2 SCL/CCLK (in), 3 AD0/~{CS} (in), 4 AD1/CDIN (in), 5 VLC (power), 6 ~{RESET} (in), 7 AIN3A (in), 8 AIN3B (in), 9 AIN2A (in), 10 AIN2B (in), 11 AIN1A (in), 12 AIN1B (in), 13 AGND (power), 14 VA (power), 15 AFILTA (power), 16 AFILTB (power), 17 VQ1 (power), 18 VQ2 (power), 19 FILT1+ (power), 20 FILT2+ (power), 21 AIN4A/MICIN1 (in), 22 AIN4B/MICIN2 (in), 23 AIN5A (in), 24 AIN5B (in), 25 MICBIAS (power), 26 AIN6A (in), 27 AIN6B (in), 28 AUXOUTA (out), 29 AUXOUTB (out), 30 VA (power), 31 AGND (power), 32 AGND (power), 33 AOUTA (out), 34 AOUTB (out), 35 ~{MUTEC} (out), 36 VLS (power), 37 SDIN (in), 38 SCLK2 (io), 39 LRCLK2 (io), 40 MCLK2 (in), 41 SDOUT (out), 42 SCLK1 (io), 43 LRCLK1 (io), 44 MCLK1 (in), 45 DGND (power), 46 VD (power), 47 INT (out), 48 OVFL (out)

## CS4270-CZZR
designator U?
24-Bit 192kHz Stereo Audio Codec TSSOP-24; Manufacturer: Cirrus Logic; Manufacturer Part Number: CS4270-CZZR
footprint TSSOP-24
pins: 1 SDIN (in), 2 LRCK (io), 3 MCLK (in), 4 SCLK (io), 5 VD (power), 6 DGND (power), 7 SDOUT (out), 8 VLC (power), 9 SDA/CDOUT (io), 10 SCL/CCLK (in), 11 ADO/~{CS} (in), 12 AD1/CDIN (in), 13 AD2, 14 ~{RST} (in), 15 AINA (in), 16 AINB (in), 17 VQ (power), 18 FILT+ (power), 19 VA (power), 20 AGND (power), 21 ~{MUTEA} (out), 22 AOUTA (out), 23 AOUTB (out), 24 ~{MUTEB} (out)

## CS42888-CQZ
designator U?
CODEC 108dB 192kHz 4-In 8-Out LQFP-64 Commercial Grade; Manufacturer: Cirrus Logic; Manufacturer Part Number: CS42888-CQZ
footprint LQFP-64-0.5mm (TSQFP, 64-Leads, Body 10.00x10.00mm, Pitch 0.50mm, IPC Medium Density)
pins: 1 ADO/~{CS} (in), 2 AD1/CDIN (in), 3 ~{RST} (in), 4 VLC (power), 5 ADC_LRCK (io), 6 VD (power), 7 DGND (power), 8 VLS (power), 9 ADC_SCLK (io), 10 MCLK (in), 11 TSTO, 12 ADC_SDOUT2 (out), 13 ADC_SDOUT1 (out), 14 DAC_SDIN4 (in), 15 DAC_SDIN3 (in), 16 DAC_SDIN2 (in), 17 DAC_SDIN1 (in), 18 DAC_SCLK (io), 19 DAC_LRCK (io), 20 AUX_LRCK (out), 21 AUX_SCLK (out), 22 AUX_SDIN (in), 23 DGND (power), 24 VD (power), 25 AOUT1- (out), 26 AOUT1+ (out), 27 AOUT2+ (out), 28 AOUT2- (out), 29 AOUT3- (out), 30 AOUT3+ (out), 31 AOUT4+ (out), 32 AOUT4- (out), 33 AOUT5- (out), 34 AOUT5+ (out), 35 MUTEC (out), 36 AOUT6+ (out), 37 AOUT6- (out), 38 AOUT7- (out), 39 AOUT7+ (out), 40 AOUT8+ (out), 41 AOUT8- (out), 42 AGND (power), 43 VQ (power), 44 VA (power), 45 AIN1- (in), 46 AIN1+ (in), 47 AIN2- (in), 48 AIN2+ (in), 49 AIN3- (in), 50 AIN3+ (in), 51 AIN4- (in), 52 AIN4+ (in), 53 VA (power), 54 FILT+_DAC (power), 55 FILT+_ADC (power), 56 AGND (power), 57 TSTN, 58 TSTN, 59 TSTN, 60 TSTN, 61 INT (out), 62 DGND (power), 63 SCL/CCLK (in), 64 SDA/CDOUT (io)
text: CS4288 CODEC; 24-bit 192kHz 4-In 8-Out

## CSS2H-2512
designator R?
Current Sense Resistor SMD CSS2H-2512; Manufacturer: Bourns; Manufacturer Part Number: CSS2H-2512
footprint CSS2H-2512
pins: 1, 2

## CUS10S30,H3F
designator D?
Schottky Diode; Manufacturer_Name: Toshiba; Manufacturer_Part_Number: CUS10S30,H3F; Datasheet Link: http://toshiba.semicon-storage.com/info/docget.jsp?did=14077&prodName=CUS10S30; Height: 1mm; Mouser Part Number: 757-CUS10S30H3F; Mouser Price/Stock: https://www.mouser.co.uk/ProductDetail/Toshiba/CUS10S30H3F?qs=cW4DzVrAanO4Xm6ySrHr7g%3D%3D; Arrow Part Number: CUS10S30,H3F; Arrow Price/Stock: https://www.arrow.com/en/products/cus10s30h3f/toshiba?utm_currency=USD&region=nac
footprint 1SS357TPH3F
pins: 1 K, 2 A

## D_SCHOTTKY_SMA
designator D?
Diode Schottky SMD SMA (DO-214AA)
footprint DO-214AC-2 (SMA)
pins: A, K

## D_SCHOTTKY_SOD_323
designator D?
Diode Schottky SMD SOD-323
footprint SOD-323
pins: A, K

## D_SMA
designator D?
Diode SMD SMA (DO-214AA)
footprint DO-214AC-2 (SMA)
pins: A, K

## D_TVS_0402
designator D?
Diode TVS / ESD 0402
footprint D_0402
pins: A, K

## D_ZENER_SOD_323
designator D?
Diode Zener SMD SOD-323
footprint SOD-323
pins: A, K

## DC-005-5A-3.0
designator J?
DC Barrell Jack 6.2mm 5 A3.0mm Through Hole; Parameter 1: XKB; Parameter 2: DC-005-5A-3.0
footprint DC-005-5A-3.0
pins: 1, 2, 3

## Digilent_HS2_Header
designator J?, comment Digilent HS2 Header
Digilent HS2 6-Pin 2.54mm Pitch Header; Manufacturer: Amphenol FCI; Manufacturer Part Number: 68000-406HLF
footprint DIGILENT_HS2
pins: 1 TMS, 2 TDI, 3 TDO, 4 TCK, 5 GND (power), 6 VDD (power)

## DIO7320XS8
designator U?
Power Distribution 5.5V 5A Load switch with slew rate control and reverse current blocking; Manufacturer: DIOO; Manufacturer Part Number: DIO7320XS8
footprint SOIC127P600X165_HS-9N (SOIC, 8-Leads, Body 4.90x3.90mm, Pitch 1.27mm, Thermal Pad 3.10x2.21mm, IPC Medium Density)
pins: 1 IN, 2 GND, 3 IN, 4 GND, 5 EN, 6 OUT, 7 EN, 8 OUT, 9 PAD

## DMP6050SPS-13
designator Q?
MOSFET P-Channel Vds=60V Vgs=+-20V Id=26A Rds(on|=50mOhms; Manufacturer: Diodes Incorporated; Manufacturer Part Number: DMP6050SPS-13
footprint PowerDI5060-8
pins: 1 D, 2 G, 3 S

## ECS-2520MV-130-BN-TR
designator X?
Standard Clock Oscillators XO (Standard),13MHz,Standby (Power Down),CMOS, Multi-Volt,1.6 V 3.6 V,+/-50ppm,-40 C 85 C,6mA,Surface Mount,4-SMD, No Lead,(2.50mm x 2.00mm),(0.80mm); Manufacturer: ECS; Manufacturer Part Number: ECS-2520MV-130-BN-TR
footprint SSOP5
footprint XTAL_2520
pins: 1 EN (in), 2 GND (power), 3 OUT, 4 VDD (power)

## EG2133
designator U?
Triple Half-Bridge Gate Driver IC TSSOP-20; Manufacturer: EG Micro; Manufacturer Part Number: EG2133; LCSC Part #: C405330
footprint TSSOP-20 (TSOP, 20-Leads, Body 6,50x4,40mm, Pitch 0,65mm, IPC Medium Density)
pins: 1 HIN1, 2 HIN2, 3 HIN3, 4 ~{LIN1}, 5 ~{LIN2}, 6 ~{LIN3}, 7 VCC, 8 GND, 9 LO3, 10 LO2, 11 LO1, 12 VS3, 13 HO3, 14 VB3, 15 VS2, 16 HO2, 17 VB2, 18 VS1, 19 HO1, 20 VB1

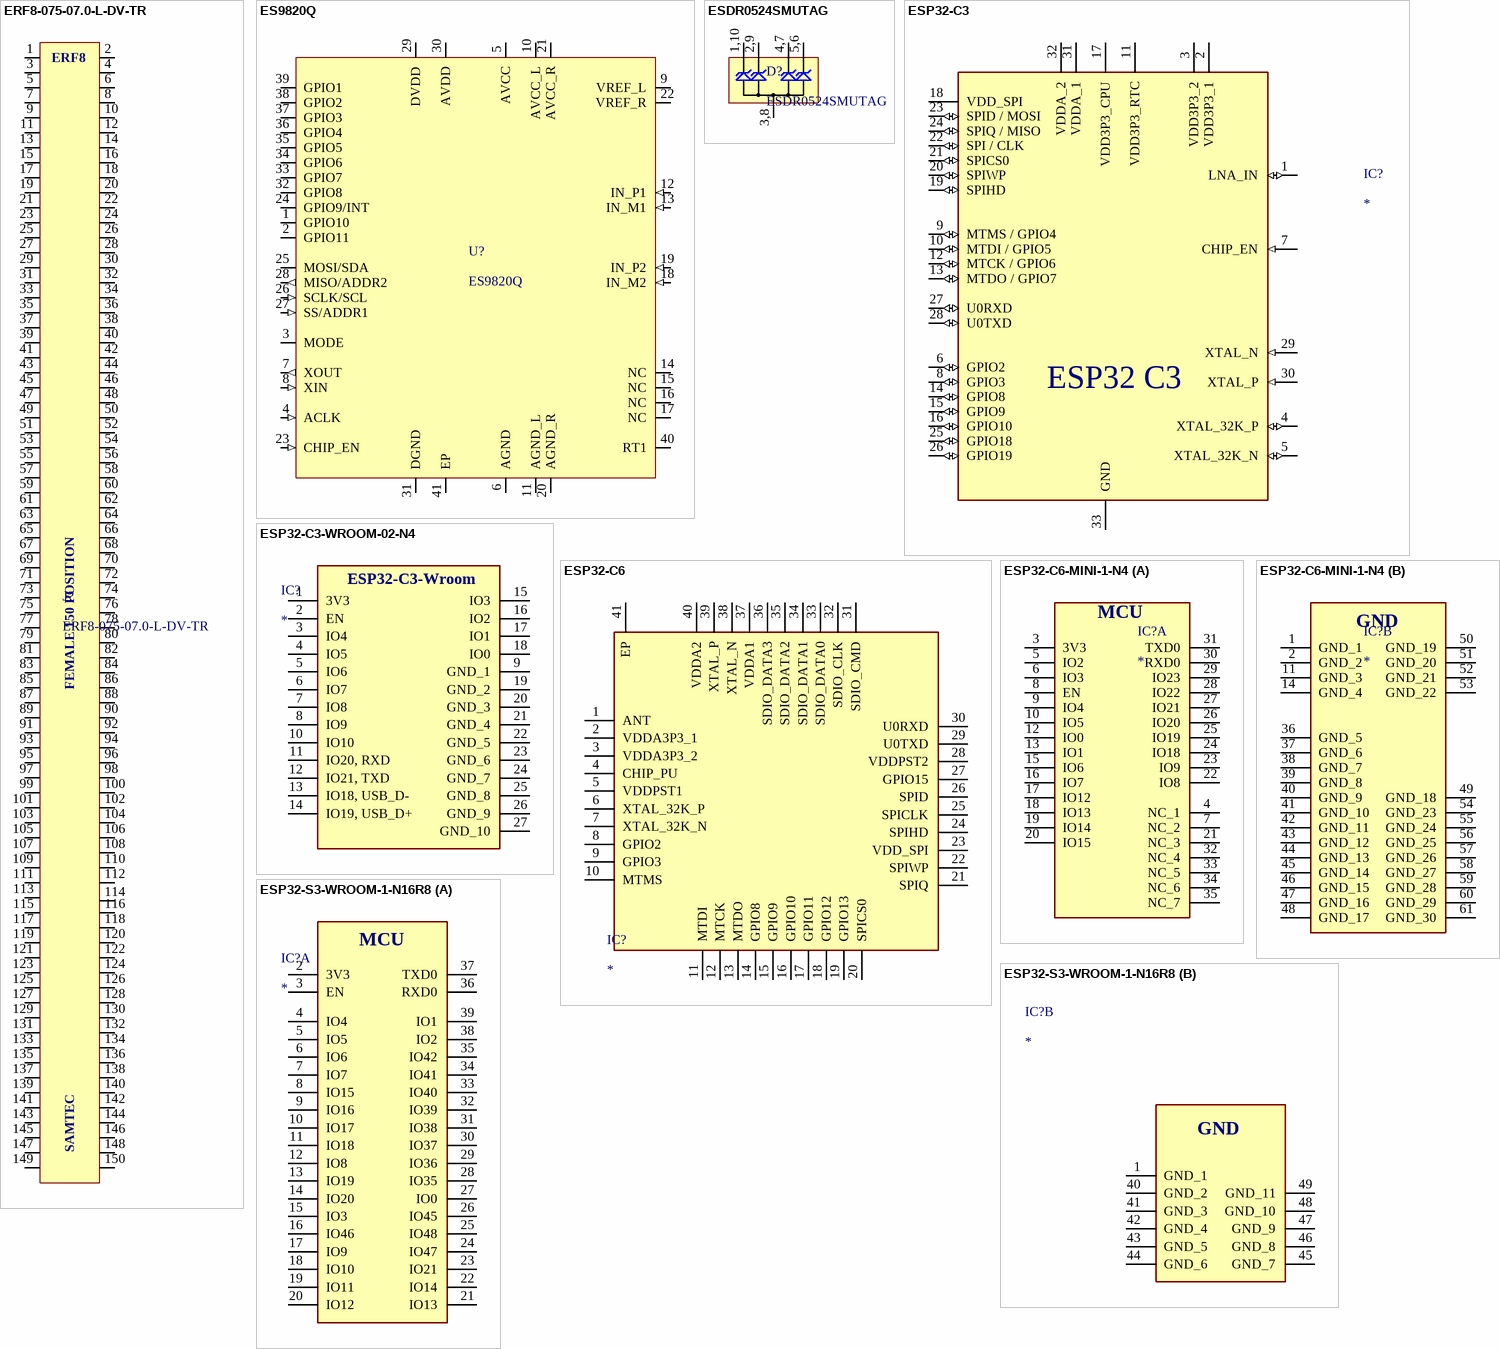
[diagram p3: symbols ERF8-075-07.0-L-DV-TR to ESP32-S3-WROOM-1-N16R8]

## ERF8-075-07.0-L-DV-TR
designator J?
Mezzanine Connector Female Samtec 0.80 mm Edge Rate® Rugged High Speed Socket; Manufacturer: Samtec; Manufacturer Part Number: ERF8-075-07.0-L-DV-TR
footprint ERF8-075-07.0-L-DV-TR
pins: 1, 2, 3, 4, 5, 6, 7, 8, 9, 10, 11, 12, 13, 14, 15, 16, 17, 18, 19, 20, 21, 22, 23, 24, 25, 26, 27, 28, 29, 30, 31, 32, 33, 34, 35, 36, 37, 38, 39, 40, 41, 42, 43, 44, 45, 46, 47, 48, 49, 50, 51, 52, 53, 54, 55, 56, 57, 58, 59, 60, 61, 62, 63, 64, 65, 66, 67, 68, 69, 70, 71, 72, 73, 74, 75, 76, 77, 78, 79, 80, 81, 82, 83, 84, 85, 86, 87, 88, 89, 90, 91, 92, 93, 94, 95, 96, 97, 98, 99, 100, 101, 102, 103, 104, 105, 106, 107, 108, 109, 110, 111, 112, 113, 114, 115, 116, 117, 118, 119, 120, 121, 122, 123, 124, 125, 126, 127, 128, 129, 130, 131, 132, 133, 134, 135, 136, 137, 138, 139, 140, 141, 142, 143, 144, 145, 146, 147, 148, 149, 150
text: ERF8; FEMALE 150 POSITION; SAMTEC

## ES9820Q
designator U?
32-bit High-Performance 2-Channel ADC; Manufacturer: ESS Technology; Manufacturer Part Number: ES9820Q
footprint QFN-40-0.4-EP (QFN 40 Pads 0.4mm Pitch Thermal Pad)
pins: 1 GPIO10 (io), 2 GPIO11 (io), 3 MODE, 4 ACLK (in), 5 AVCC (power), 6 AGND (power), 7 XOUT (out), 8 XIN (in), 9 VREF_L (power), 10 AVCC_L (power), 11 AGND_L (power), 12 IN_P1 (in), 13 IN_M1 (in), 14 NC, 15 NC, 16 NC (hiz), 17 NC, 18 IN_M2 (in), 19 IN_P2 (in), 20 AGND_R (power), 21 AVCC_R (power), 22 VREF_R (power), 23 CHIP_EN (in), 24 GPIO9/INT (io), 25 MOSI/SDA (io), 26 SCLK/SCL (in), 27 SS/ADDR1 (in), 28 MISO/ADDR2 (out), 29 DVDD (power), 30 AVDD (power), 31 DGND (power), 32 GPIO8 (io), 33 GPIO7 (io), 34 GPIO6 (io), 35 GPIO5 (io), 36 GPIO4 (io), 37 GPIO3 (io), 38 GPIO2 (io), 39 GPIO1 (io), 40 RT1, 41 EP (power)

## ESDR0524SMUTAG
designator D?
TVS Diode Array Low Capacitance ESD Protection 4-Channel (Vwork=5V, Vclamp=15V)
footprint uDFN-10-WIDE
pins: 1,10, 2,9, 3,8 GND, 4,7, 5,6

## ESP32-C3
designator IC?
Integrated Circuit; Manufacturer_Name: Espressif Systems; Manufacturer_Part_Number: ESP32-C3; Datasheet Link: https://www.espressif.com/sites/default/files/documentation/esp32-c3_datasheet_en.pdf; Height: 0.9mm; Mouser Part Number: 356-ESP32-C3; Mouser Price/Stock: https://www.mouser.co.uk/ProductDetail/Espressif-Systems/ESP32-C3?qs=iLbezkQI%252BsiMXe7tMG%252Bo%2FA%3D%3D
footprint QFN50P500X500X90-33N-D
pins: 1 LNA_IN (io), 2 VDD3P3_1, 3 VDD3P3_2, 4 XTAL_32K_P (io), 5 XTAL_32K_N (io), 6 GPIO2 (io), 7 CHIP_EN (in), 8 GPIO3 (io), 9 MTMS / GPIO4 (io), 10 MTDI / GPIO5 (io), 11 VDD3P3_RTC, 12 MTCK / GPIO6 (io), 13 MTDO / GPIO7 (io), 14 GPIO8 (io), 15 GPIO9 (io), 16 GPIO10 (io), 17 VDD3P3_CPU, 18 VDD_SPI, 19 SPIHD (io), 20 SPIWP (io), 21 SPICS0 (io), 22 SPI / CLK (io), 23 SPID / MOSI (io), 24 SPIQ / MISO (io), 25 GPIO18 (io), 26 GPIO19 (io), 27 U0RXD (io), 28 U0TXD (io), 29 XTAL_N (in), 30 XTAL_P (in), 31 VDDA_1, 32 VDDA_2, 33 GND
text: ESP32 C3

## ESP32-C3-WROOM-02-N4
designator IC?
Integrated Circuit; Manufacturer_Name: Espressif Systems; Manufacturer_Part_Number: ESP32-C3-WROOM-02-N4; Datasheet Link: https://www.mouser.ch/datasheet/2/891/Espressif_ESP32_C3_WROOM_02-2006871.pdf; Height: 3.35mm; Mouser Part Number: 356-ESP32C3WROOM02N4; Mouser Price/Stock: https://www.mouser.co.uk/ProductDetail/Espressif-Systems/ESP32-C3-WROOM-02-N4?qs=stqOd1AaK7%2FqjTZKEOgfUg%3D%3D
footprint ESP32C3WROOM02N4
pins: 1 3V3, 2 EN, 3 IO4, 4 IO5, 5 IO6, 6 IO7, 7 IO8, 8 IO9, 9 GND_1, 10 IO10, 11 IO20, RXD, 12 IO21, TXD, 13 IO18, USB_D-, 14 IO19, USB_D+, 15 IO3, 16 IO2, 17 IO1, 18 IO0, 19 GND_2, 20 GND_3, 21 GND_4, 22 GND_5, 23 GND_6, 24 GND_7, 25 GND_8, 26 GND_9, 27 GND_10
text: ESP32-C3-Wroom

## ESP32-C6
designator IC?
Integrated Circuit; Manufacturer_Name: Espressif Systems; Manufacturer_Part_Number: ESP32-C6; Datasheet Link: https://ro.mouser.com/datasheet/2/891/esp32_c6_datasheet_en-3304070.pdf; Height: 0.9mm; Mouser Part Number: 356-ESP32-C6; Mouser Price/Stock: https://www.mouser.co.uk/ProductDetail/Espressif-Systems/ESP32-C6?qs=Imq1NPwxi75noDtUpuVuWw%3D%3D
footprint QFN40P500X500X90-41N-D
pins: 1 ANT, 2 VDDA3P3_1, 3 VDDA3P3_2, 4 CHIP_PU, 5 VDDPST1, 6 XTAL_32K_P, 7 XTAL_32K_N, 8 GPIO2, 9 GPIO3, 10 MTMS, 11 MTDI, 12 MTCK, 13 MTDO, 14 GPIO8, 15 GPIO9, 16 GPIO10, 17 GPIO11, 18 GPIO12, 19 GPIO13, 20 SPICS0, 21 SPIQ, 22 SPIWP, 23 VDD_SPI, 24 SPIHD, 25 SPICLK, 26 SPID, 27 GPIO15, 28 VDDPST2, 29 U0TXD, 30 U0RXD, 31 SDIO_CMD, 32 SDIO_CLK, 33 SDIO_DATA0, 34 SDIO_DATA1, 35 SDIO_DATA2, 36 SDIO_DATA3, 37 VDDA1, 38 XTAL_N, 39 XTAL_P, 40 VDDA2, 41 EP

## ESP32-C6-MINI-1-N4
designator IC?
Integrated Circuit; Manufacturer_Name: Espressif Systems; Manufacturer_Part_Number: ESP32-C6-MINI-1-N4; Datasheet Link: https://www.espressif.com/sites/default/files/documentation/esp32-c6-mini-1_mini-1u_datasheet_en.pdf; Mouser Part Number: 356-ESP32C6MINI-1-N4; Mouser Price/Stock: https://www.mouser.co.uk/ProductDetail/Espressif-Systems/ESP32-C6-MINI-1-N4?qs=Jm2GQyTW%2FbjiJX9bVadqSw%3D%3D; LCSC PART #: C5736265
footprint ESP32C6MINI1N4
part A pins: 3 3V3, 4 NC_1, 5 IO2, 6 IO3, 7 NC_2, 8 EN, 9 IO4, 10 IO5, 12 IO0, 13 IO1, 15 IO6, 16 IO7, 17 IO12, 18 IO13, 19 IO14, 20 IO15, 21 NC_3, 22 IO8, 23 IO9, 24 IO18, 25 IO19, 26 IO20, 27 IO21, 28 IO22, 29 IO23, 30 RXD0, 31 TXD0, 32 NC_4, 33 NC_5, 34 NC_6, 35 NC_7
part B pins: 1 GND_1, 2 GND_2, 11 GND_3, 14 GND_4, 36 GND_5, 37 GND_6, 38 GND_7, 39 GND_8, 40 GND_9, 41 GND_10, 42 GND_11, 43 GND_12, 44 GND_13, 45 GND_14, 46 GND_15, 47 GND_16, 48 GND_17, 49 GND_18, 50 GND_19, 51 GND_20, 52 GND_21, 53 GND_22, 54 GND_23, 55 GND_24, 56 GND_25, 57 GND_26, 58 GND_27, 59 GND_28, 60 GND_29, 61 GND_30
part A text: MCU
part B text: GND

## ESP32-S3-WROOM-1-N16R8
designator IC?
Integrated Circuit; Manufacturer_Name: Espressif Systems; Manufacturer_Part_Number: ESP32-S3-WROOM-1-N16R8; Datasheet Link: https://www.espressif.com/sites/default/files/documentation/esp32-s3-wroom-1_wroom-1u_datasheet_en.pdf; Height: 3.25mm; Mouser Part Number: 356-ESP32S3WRM1N16R8; Mouser Price/Stock: https://www.mouser.co.uk/ProductDetail/Espressif-Systems/ESP32-S3-WROOM-1-N16R8?qs=Li%252BoUPsLEnvQc9gW6AMhZg%3D%3D; LCSC PART #: C2913202
footprint ESP32S3WROOM1N16R8
part A pins: 2 3V3, 3 EN, 4 IO4, 5 IO5, 6 IO6, 7 IO7, 8 IO15, 9 IO16, 10 IO17, 11 IO18, 12 IO8, 13 IO19, 14 IO20, 15 IO3, 16 IO46, 17 IO9, 18 IO10, 19 IO11, 20 IO12, 21 IO13, 22 IO14, 23 IO21, 24 IO47, 25 IO48, 26 IO45, 27 IO0, 28 IO35, 29 IO36, 30 IO37, 31 IO38, 32 IO39, 33 IO40, 34 IO41, 35 IO42, 36 RXD0, 37 TXD0, 38 IO2, 39 IO1
part B pins: 1 GND_1, 40 GND_2, 41 GND_3, 42 GND_4, 43 GND_5, 44 GND_6, 45 GND_7, 46 GND_8, 47 GND_9, 48 GND_10, 49 GND_11
part A text: MCU
part B text: GND

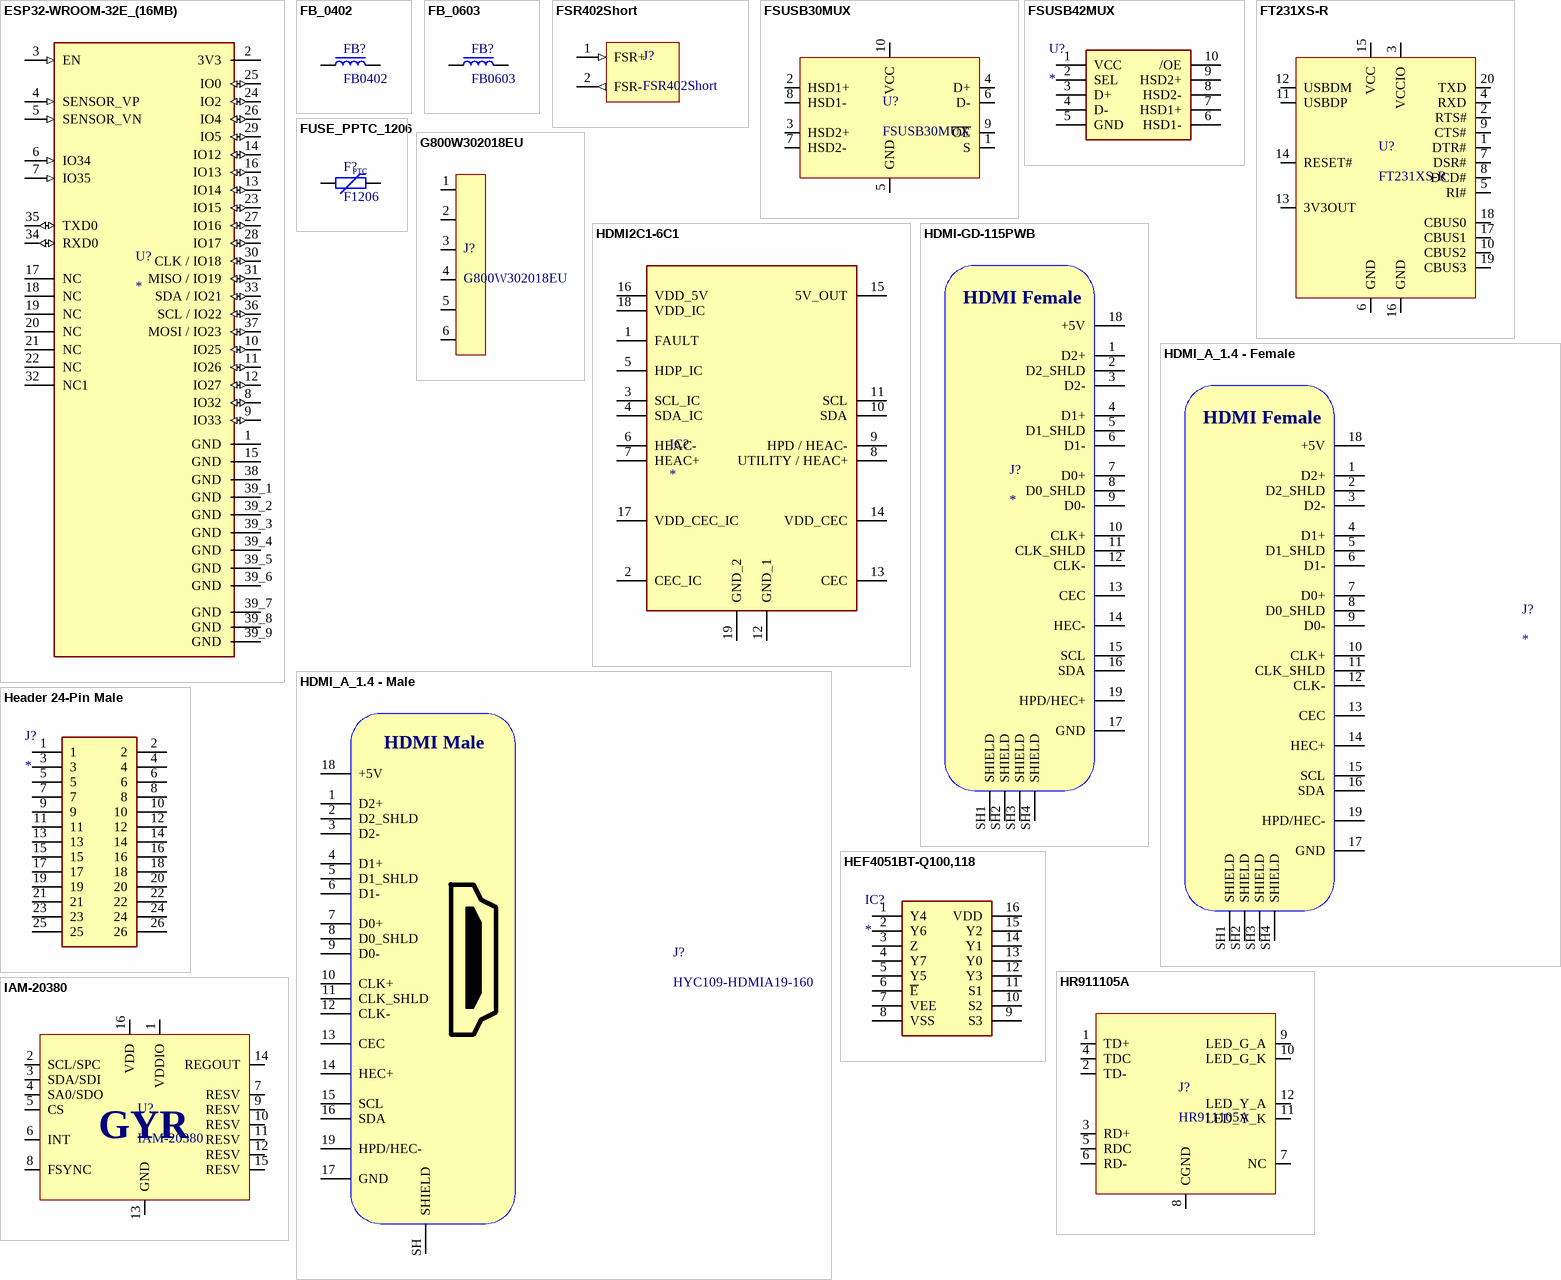
[diagram p4: symbols ESP32-WROOM-32E_(16MB) to IAM-20380]

## ESP32-WROOM-32E_(16MB)
designator U?
Bluetooth, WiFi 802.11b/g/n, Bluetooth v4.2 +EDR, Class 1, 2 and 3 Transceiver Module 2.4GHz ~ 2.5GHz Integrated, Trace Surface Mount; MP: ESP32-WROOM-32E (16MB); MF: Espressif Systems; Price: None; Availability: Not in stock; Package: None; Value: *; SnapEDA_Link: https://www.snapeda.com/parts/ESP32-WROOM-32E%20(16MB)/Espressif+Systems/view-part/?ref=snap; Check_prices: https://www.snapeda.com/parts/ESP32-WROOM-32E%20(16MB)/Espressif+Systems/view-part/?ref=eda
footprint XCVR_ESP32-WROOM-32E_(16MB)
pins: 1 GND (power), 2 3V3 (power), 3 EN (in), 4 SENSOR_VP (in), 5 SENSOR_VN (in), 6 IO34 (in), 7 IO35 (in), 8 IO32 (io), 9 IO33 (io), 10 IO25 (io), 11 IO26 (io), 12 IO27 (io), 13 IO14 (io), 14 IO12 (io), 15 GND (power), 16 IO13 (io), 17 NC, 18 NC, 19 NC, 20 NC, 21 NC, 22 NC, 23 IO15 (io), 24 IO2 (io), 25 IO0 (io), 26 IO4 (io), 27 IO16 (io), 28 IO17 (io), 29 IO5 (io), 30 CLK / IO18 (io), 31 MISO / IO19 (io), 32 NC1, 33 SDA / IO21 (io), 34 RXD0 (io), 35 TXD0 (io), 36 SCL / IO22 (io), 37 MOSI / IO23 (io), 38 GND (power), 39_1 GND (power), 39_2 GND (power), 39_3 GND (power), 39_4 GND (power), 39_5 GND (power), 39_6 GND (power), 39_7 GND (power), 39_8 GND (power), 39_9 GND (power)

## FB_0402
designator FB?, comment FB0402
Ferrite Bead SMD 0402
footprint FB_0402
pins: 1, 2

## FB_0603
designator FB?, comment FB0603
Ferrite Bead SMD 0603
footprint FB_0603 (Ferrite Bead 0603)
pins: 1, 2

## FSR402Short
designator J?
FSR402 Short version; Manufacturer: Interlink Electronics; ComponentLink1Description: Datasheet; ComponentLink1URL: https://f.hubspotusercontent20.net/hubfs/3899023/Integration%20Guides/FSR%20X%20%26%20UX%20Integration%20Guide%20-%20Interlink%20Electronics.pdf
footprint FSR402Short
pins: 1 FSR+ (in), 2 FSR- (out)

## FSUSB30MUX
designator U?
USB 2.0 High-Speed Switch MSOP-10; Manufacturer: ONSemi; Manufacturer Part Number: FSUSB30MUX
footprint MSOP-10
pins: 1 S, 2 HSD1+, 3 HSD2+, 4 D+, 5 GND, 6 D-, 7 HSD2-, 8 HSD1-, 9 ~{OE}, 10 VCC

## FSUSB42MUX
designator U?
Undefined or Miscellaneous; Manufacturer_Name: onsemi; Manufacturer_Part_Number: FSUSB42MUX; Description: 15A Maximum ICCT over and Expanded Control Voltage Range (VIN= 1.8V; Datasheet Link: https://www.onsemi.com/pub/Collateral/FSUSB42-D.PDF; Height: 1.1mm; Mouser Part Number: 512-FSUSB42MUX; Mouser Price/Stock: https://www.mouser.co.uk/ProductDetail/onsemi-Fairchild/FSUSB42MUX?qs=yA6kp8fx8Y59RAD4iJDRWg%3D%3D; Arrow Part Number: FSUSB42MUX; Arrow Price/Stock: https://www.arrow.com/en/products/fsusb42mux/on-semiconductor?utm_currency=USD&region=nac
footprint SOP50P490X110-10N
pins: 1 VCC, 2 SEL, 3 D+, 4 D-, 5 GND, 6 HSD1-, 7 HSD1+ (power), 8 HSD2-, 9 HSD2+, 10 /OE

## FT231XS-R
designator U?
USB Interface IC USB to Full Serial UART IC SSOP-20; Manufacturer: FTDI; Manufacturer Part Number: FT231XS-R
footprint SSOP20
pins: 1 DTR#, 2 RTS#, 3 VCCIO, 4 RXD, 5 RI#, 6 GND, 7 DSR#, 8 DCD#, 9 CTS#, 10 CBUS2, 11 USBDP, 12 USBDM, 13 3V3OUT, 14 RESET#, 15 VCC, 16 GND, 17 CBUS1, 18 CBUS0, 19 CBUS3, 20 TXD

## FUSE_PPTC_1206
designator F?, comment F1206
Fuse PPTC SMD 1206; Manufacturer: *; Manufacturer Part Number: *
footprint FUSE_1206
pins: 1, 2
text: PTC

## G800W302018EU
designator J?
Pin Header 6 Position 2.54mm Pitch; Manufacturer: Amphenol; Manufacturer Part Number: G800W302018EU
footprint G800W302018EU
pins: 1, 2, 3, 4, 5, 6

## HDMI2C1-6C1
designator IC?
Integrated Circuit; Manufacturer_Name: STMicroelectronics; Manufacturer_Part_Number: HDMI2C1-6C1; Datasheet Link: https://www.arrow.com/en/products/hdmi2c1-6c1/stmicroelectronics; Height: 0.6mm; Mouser Part Number: 511-HDMI2C1-6C1; Mouser Price/Stock: https://www.mouser.co.uk/ProductDetail/STMicroelectronics/HDMI2C1-6C1?qs=rfsXwfL%252BOM8jK3jRA4Uqfw%3D%3D; Arrow Part Number: HDMI2C1-6C1; Arrow Price/Stock: https://www.arrow.com/en/products/hdmi2c1-6c1/stmicroelectronics?utm_currency=USD&region=europe
footprint QFN50P350X350X60-19N-D
pins: 1 FAULT, 2 CEC_IC, 3 SCL_IC, 4 SDA_IC, 5 HDP_IC, 6 HEAC-, 7 HEAC+, 8 UTILITY / HEAC+, 9 HPD / HEAC-, 10 SDA, 11 SCL, 12 GND_1, 13 CEC, 14 VDD_CEC, 15 5V_OUT, 16 VDD_5V, 17 VDD_CEC_IC, 18 VDD_IC, 19 GND_2

## HDMI-GD-115PWB
designator J?
Connector; Manufacturer_Name: HDGC; Manufacturer_Part_Number: HDMI-GD-115PWB; Datasheet Link: https://www.lcsc.com/datasheet/lcsc_datasheet_2409272033_HDGC-HDMI-GD-115PWB_C7425328.pdf; Height: 4.65mm
footprint HDMIGD115PWB
pins: 1 D2+ "Positive signal for TMDS (Transition Minimized Differential Signaling) channel 2", 2 D2_SHLD "Shield for TMDS channel 2", 3 D2- "Negative signal for TMDS channel 2", 4 D1+ "Positive signal for TMDS channel 1", 5 D1_SHLD "Shield for TMDS channel 1", 6 D1- "Negative signal for TMDS channel 1", 7 D0+ "Positive signal for TMDS channel 0", 8 D0_SHLD "Shield for TMDS channel 0", 9 D0- "Negative signal for TMDS channel 0", 10 CLK+ "Positive signal for the TMDS clock", 11 CLK_SHLD "Shield for the TMDS clock", 12 CLK- "Negative signal for the TMDS clock", 13 CEC "Bidirectional communication line for device control", 14 HEC- "HDMI Ethernet Channel (HEC) negative signal", 15 SCL "Serial Clock line for DDC (Display Data Channel)", 16 SDA "Serial Data line for DDC (Display Data Channel)", 17 GND "Ground shared by DDC, CEC, and HEC signals", 18 +5V "Provides up to 50 mA power supply", 19 HPD/HEC+ "Hot Plug Detect or HEC Data+", SH1 SHIELD, SH2 SHIELD, SH3 SHIELD, SH4 SHIELD
text: HDMI Female

## HDMI_A_1.4 - Female
designator J?
HDMI HDMI 2.0 Receptacle Connector 19 Position Surface Mount, Right Angle; Through Hole; MF: Switchcraft Inc.; MP: RAHHD19TR; SnapEDA_Link: https://www.snapeda.com/parts/RAHHD19TR/SWITCHCRAFT/view-part/?ref=snap; Package: None; Value: *; Check_prices: https://www.snapeda.com/parts/RAHHD19TR/SWITCHCRAFT/view-part/?ref=eda
footprint SWITCHCRAFT_RAHHD19TR
pins: 1 D2+ "Positive signal for TMDS (Transition Minimized Differential Signaling) channel 2", 2 D2_SHLD "Shield for TMDS channel 2", 3 D2- "Negative signal for TMDS channel 2", 4 D1+ "Positive signal for TMDS channel 1", 5 D1_SHLD "Shield for TMDS channel 1", 6 D1- "Negative signal for TMDS channel 1", 7 D0+ "Positive signal for TMDS channel 0", 8 D0_SHLD "Shield for TMDS channel 0", 9 D0- "Negative signal for TMDS channel 0", 10 CLK+ "Positive signal for the TMDS clock", 11 CLK_SHLD "Shield for the TMDS clock", 12 CLK- "Negative signal for the TMDS clock", 13 CEC "Bidirectional communication line for device control", 14 HEC+ "HDMI Ethernet Channel (HEC)  Positive signal", 15 SCL "Serial Clock line for DDC (Display Data Channel)", 16 SDA "Serial Data line for DDC (Display Data Channel)", 17 GND "Ground shared by DDC, CEC, and HEC signals", 18 +5V "Provides up to 50 mA power supply", 19 HPD/HEC- "Hot Plug Detect or HEC Data-", SH1 SHIELD, SH2 SHIELD, SH3 SHIELD, SH4 SHIELD
text: HDMI Female

## HDMI_A_1.4 - Male
designator J?, comment HYC109-HDMIA19-160
ComponentLink1Description: Datasheet; ComponentLink1URL: https://www.contactswitch.com/en/download.aspx?id=1449; LCSC PART #: C711355; MFR Part #: HYC109-HDMIA19-160
footprint HDMI_A_Contact_Technology_HDMI-19APL2_Horizontal
pins: 1 D2+ "Positive signal for TMDS (Transition Minimized Differential Signaling) channel 2", 2 D2_SHLD "Shield for TMDS channel 2", 3 D2- "Negative signal for TMDS channel 2", 4 D1+ "Positive signal for TMDS channel 1", 5 D1_SHLD "Shield for TMDS channel 1", 6 D1- "Negative signal for TMDS channel 1", 7 D0+ "Positive signal for TMDS channel 0", 8 D0_SHLD "Shield for TMDS channel 0", 9 D0- "Negative signal for TMDS channel 0", 10 CLK+ "Positive signal for the TMDS clock", 11 CLK_SHLD "Shield for the TMDS clock", 12 CLK- "Negative signal for the TMDS clock", 13 CEC "Bidirectional communication line for device control", 14 HEC+ "HDMI Ethernet Channel (HEC) Positive", 15 SCL "Serial Clock line for DDC (Display Data Channel)", 16 SDA "Serial Data line for DDC (Display Data Channel)", 17 GND "Ground shared by DDC, CEC, and HEC signals", 18 +5V "Provides up to 50 mA power supply", 19 HPD/HEC- "Hot Plug Detect or HEC Data-", SH SHIELD
text: HDMI Male

## Header 24-Pin Male
designator J?
Connector 24Pin 2.54mm Side_Angle / Male; Manufacturer_Name: Wurth Elektronik; Manufacturer_Part_Number: 61202621721; Datasheet Link: https://www.we-online.com/catalog/datasheet/61202621721.pdf; Height: 9.25mm; Mouser Part Number: 710-61202621721; Mouser Price/Stock: https://www.mouser.co.uk/ProductDetail/Wurth-Elektronik/61202621721?qs=ZtY9WdtwX54OOt1nVUy46g%3D%3D
footprint SHDRRA26W65P254X254_2X13_4068X885X925P
pins: 1, 2, 3, 4, 5, 6, 7, 8, 9, 10, 11, 12, 13, 14, 15, 16, 17, 18, 19, 20, 21, 22, 23, 24, 25, 26

## HEF4051BT-Q100,118
designator IC?
Integrated Circuit; Manufacturer_Name: Nexperia; Manufacturer_Part_Number: HEF4051BT-Q100,118; Datasheet Link: https://assets.nexperia.com/documents/data-sheet/HEF4051B_Q100.pdf; Height: 1.75mm; Mouser Part Number: 771-HEF4051BTQ100118; Mouser Price/Stock: https://www.mouser.co.uk/ProductDetail/Nexperia/HEF4051BT-Q100118?qs=vnbNJPHmPnPr7566M1fY%252BA%3D%3D; Arrow Part Number: HEF4051BT-Q100,118; Arrow Price/Stock: https://www.arrow.com/en/products/hef4051bt-q100118/nexperia
footprint HEF4051BTQ100118
pins: 1 Y4, 2 Y6, 3 Z, 4 Y7, 5 Y5, 6 ~{E}, 7 VEE, 8 VSS, 9 S3, 10 S2, 11 S1, 12 Y3, 13 Y0, 14 Y1, 15 Y2, 16 VDD

## HR911105A
designator J?
Single Port RJ45 Connector w/ Integrated Magnetic and LED 10/100 Base-T; Manufacturer: HanRun; Manufacturer Part Number: HR911105A
footprint HR911105A
pins: 1 TD+, 2 TD-, 3 RD+, 4 TDC, 5 RDC, 6 RD-, 7 NC, 8 CGND, 9 LED_G_A, 10 LED_G_K, 11 LED_Y_K, 12 LED_Y_A

## IAM-20380
designator U?
High Performance MEMS Gyroscope 3-Axis I2C/SPI; Manufacturer: TDK InvenSense; Manufacturer Part Number: IAM-20380
footprint QFN50P300X300X80_HS-17N (QFN, 16-Leads, Body 3.00x3.00mm, Pitch 0.50mm, Thermal Pad 1.00x1.00mm, IPC Medium Density)
pins: 1 VDDIO, 2 SCL/SPC, 3 SDA/SDI, 4 SA0/SDO, 5 CS, 6 INT, 7 RESV, 8 FSYNC, 9 RESV, 10 RESV, 11 RESV, 12 RESV, 13 GND, 14 REGOUT, 15 RESV, 16 VDD
text: GYR

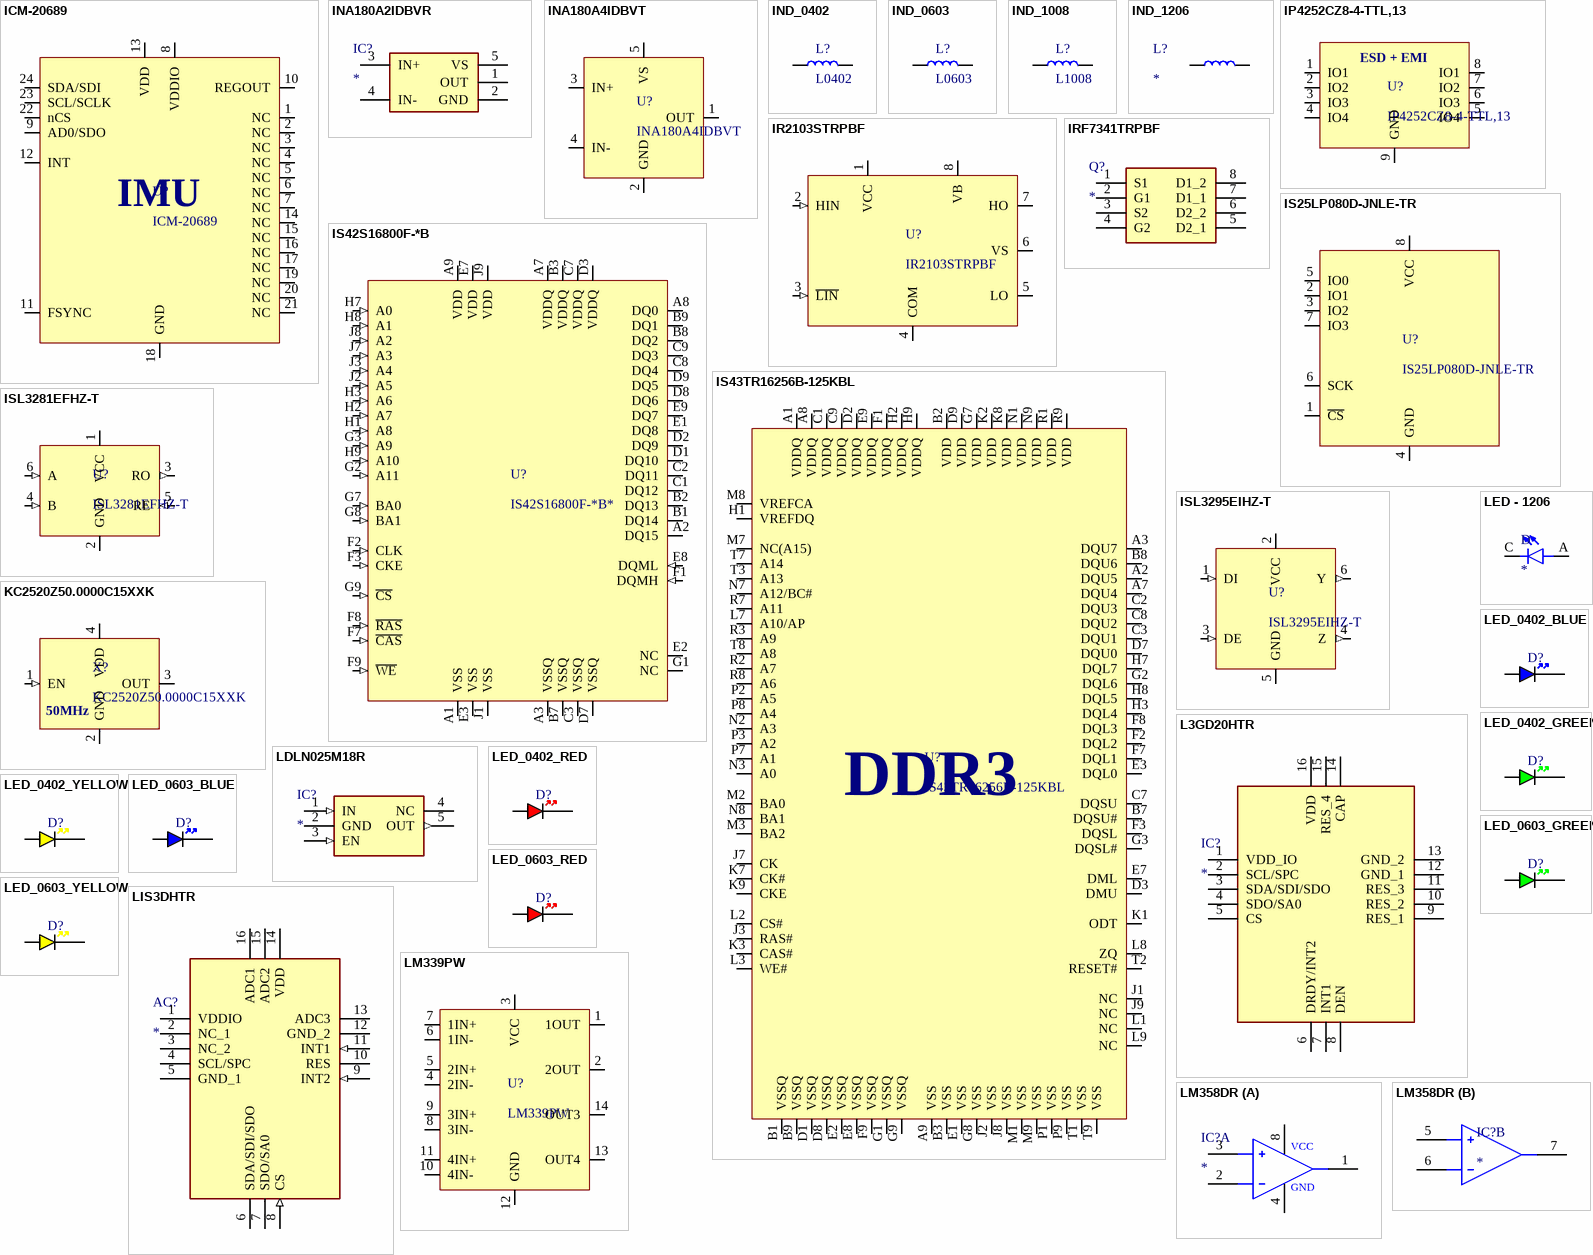
[diagram p5: symbols ICM-20689 to LM358DR]

## ICM-20689
designator U?
High Performance 6-Axis MEMS IMU; Manufacturer: TDK InvenSense; Manufacturer Part Number: ICM-20689
footprint QFN50P400X400X95_HS-25N (QFN, 24-Leads, Body 4.00x4.00mm, Pitch 0.50mm, Thermal Pad 2.60x2.70mm, IPC Medium Density)
pins: 1 NC, 2 NC, 3 NC, 4 NC, 5 NC, 6 NC, 7 NC, 8 VDDIO, 9 AD0/SDO, 10 REGOUT, 11 FSYNC, 12 INT, 13 VDD, 14 NC, 15 NC, 16 NC, 17 NC, 18 GND, 19 NC, 20 NC, 21 NC, 22 nCS, 23 SCL/SCLK, 24 SDA/SDI
text: IMU

## INA180A2IDBVR
designator IC?
Integrated Circuit; Manufacturer_Name: Texas Instruments; Manufacturer_Part_Number: INA180A2IDBVR; Datasheet Link: http://www.ti.com/lit/ds/symlink/ina180.pdf; Height: 1.45mm; Mouser Price/Stock: https://www.mouser.co.uk/ProductDetail/Texas-Instruments/INA180A2IDBVR?qs=5aG0NVq1C4wYcJfa99BoHg%3D%3D; Arrow Part Number: INA180A2IDBVR; Arrow Price/Stock: https://www.arrow.com/en/products/ina180a2idbvr/texas-instruments?utm_currency=USD&region=nac; LCSC PART #: C192764; Mouser Part Number: 595-INA180A2IDBVR
footprint SOT95P280X145-5N
pins: 1 OUT, 2 GND, 3 IN+, 4 IN-, 5 VS

## INA180A4IDBVT
designator U?
Current Sense Amplifier 200V/V Gain 105kHz BW SOT-23-5; Manufacturer: Texas Instruments; Manufacturer Part Number: INA180A4IDBVT
footprint SOT-23-5 (SOT23, 5-Leads, Body 2,90x2,80mm, Pitch 0,95mm, IPC Medium Density)
pins: 1 OUT, 2 GND, 3 IN+, 4 IN-, 5 VS

## IND_0402
designator L?, comment L0402
Inductor SMD 0402
footprint IND_0402
pins: 1, 2

## IND_0603
designator L?, comment L0603
Inductor SMD 0603
footprint IND_0603
pins: 1, 2

## IND_1008
designator L?, comment L1008
Inductor SMD 1008
footprint IND_1008
pins: 1, 2

## IND_1206
designator L?
Inductor; Manufacturer_Name: COILCRAFT; Manufacturer_Part_Number: 1206CS-030XJLB; Datasheet Link: https://www.coilcraft.com/pdfs/1206cs.pdf; Height: 1mm; Mouser Part Number: 994-1206CS-030XJLB; Mouser Price/Stock: https://www.mouser.com/Search/Refine.aspx?Keyword=994-1206CS-030XJLB
footprint 1206CS102XJLB
pins: 1, 2

## IP4252CZ8-4-TTL,13
designator U?
Integrated 4 passive filter network / with ESD protection C=12pF Vwork=5.6V
footprint SON40P140X55_HS-9N (SON, 8-Leads, Body 1,70x1,35mm, Pitch 0,40mm, Thermal Pad 1,20x0,24mm, IPC Medium Density)
pins: 1 IO1, 2 IO2, 3 IO3, 4 IO4, 5 IO4, 6 IO3, 7 IO2, 8 IO1, 9 GND
text: ESD + EMI

## IR2103STRPBF
designator U?
Half-Bridge Driver SOIC-8; Manufacturer: Infineon Technologies; Manufacturer Part Number: IR2103STRPBF
footprint SOIC-8 (SOIC, 8-Leads, Body 4.91x3.90mm, Pitch 1.27mm, IPC Medium Density)
pins: 1 VCC (power), 2 HIN (in), 3 ~{LIN} (in), 4 COM (power), 5 LO (power), 6 VS (power), 7 HO (power), 8 VB (power)

## IRF7341TRPBF
designator Q?
MOSFET (N-Channel); Manufacturer_Name: Infineon; Manufacturer_Part_Number: IRF7341TRPBF; Datasheet Link: https://www.infineon.com/dgdl/irf7341pbf.pdf?fileId=5546d462533600a4015355f64f031b63; Height: 1.75mm; Mouser Part Number: 942-IRF7341TRPBF; Mouser Price/Stock: https://www.mouser.co.uk/ProductDetail/Infineon-Technologies/IRF7341TRPBF?qs=9%252BKlkBgLFf2bTCnvSq3Q3A%3D%3D; Arrow Part Number: IRF7341TRPBF; Arrow Price/Stock: https://www.arrow.com/en/products/irf7341trpbf/infineon-technologies-ag?region=nac
footprint SOIC127P600X175-8N
pins: 1 S1, 2 G1, 3 S2, 4 G2, 5 D2_1, 6 D2_2, 7 D1_1, 8 D1_2

## IS25LP080D-JNLE-TR
designator U?
QSPI NOR Flash Memory 8 Mbit SOIC-8; Manufacturer: ISSI; Manufacturer Part Number: IS25LP080D-JNLE-TR
footprint SOIC-8 (SOIC, 8-Leads, Body 4.91x3.90mm, Pitch 1.27mm, IPC Medium Density)
pins: 1 ~{CS}, 2 IO1, 3 IO2, 4 GND (power), 5 IO0, 6 SCK, 7 IO3, 8 VCC (power)

## IS42S16800F-*B
designator U?, comment IS42S16800F-*B*
SDRAM 128Mbit 8Mx16 143Mhz 3.3V 54-ball BGA; Manufacturer: ISSI; Manufacturer Part Number: IS42S16800F-*B*
footprint BGA54C80P9X9_800X800X120 (BGA, 54-Leads, Body 8.00x8.00mmx1.20mm, Pitch 0.80mm)
pins: A1 VSS (power), A2 DQ15 (io), A3 VSSQ (power), A7 VDDQ (power), A8 DQ0 (io), A9 VDD (power), B1 DQ14 (io), B2 DQ13 (io), B3 VDDQ (power), B7 VSSQ (power), B8 DQ2 (io), B9 DQ1 (io), C1 DQ12 (io), C2 DQ11 (io), C3 VSSQ (power), C7 VDDQ (power), C8 DQ4 (io), C9 DQ3 (io), D1 DQ10 (io), D2 DQ9 (io), D3 VDDQ (power), D7 VSSQ (power), D8 DQ6 (io), D9 DQ5 (io), E1 DQ8 (io), E2 NC, E3 VSS (power), E7 VDD (power), E8 DQML (in), E9 DQ7 (io), F1 DQMH (in), F2 CLK (in), F3 CKE (in), F7 ~{CAS} (in), F8 ~{RAS} (in), F9 ~{WE} (in), G1 NC, G2 A11 (in), G3 A9 (in), G7 BA0 (in), G8 BA1 (in), G9 ~{CS} (in), H1 A8 (in), H2 A7 (in), H3 A6 (in), H7 A0 (in), H8 A1 (in), H9 A10 (in), J1 VSS (power), J2 A5 (in), J3 A4 (in), J7 A3 (in), J8 A2 (in), J9 VDD (power)